# Altium integrated library Microchip PIC24F.IntLib: 529 symbols (part 24 of 32)

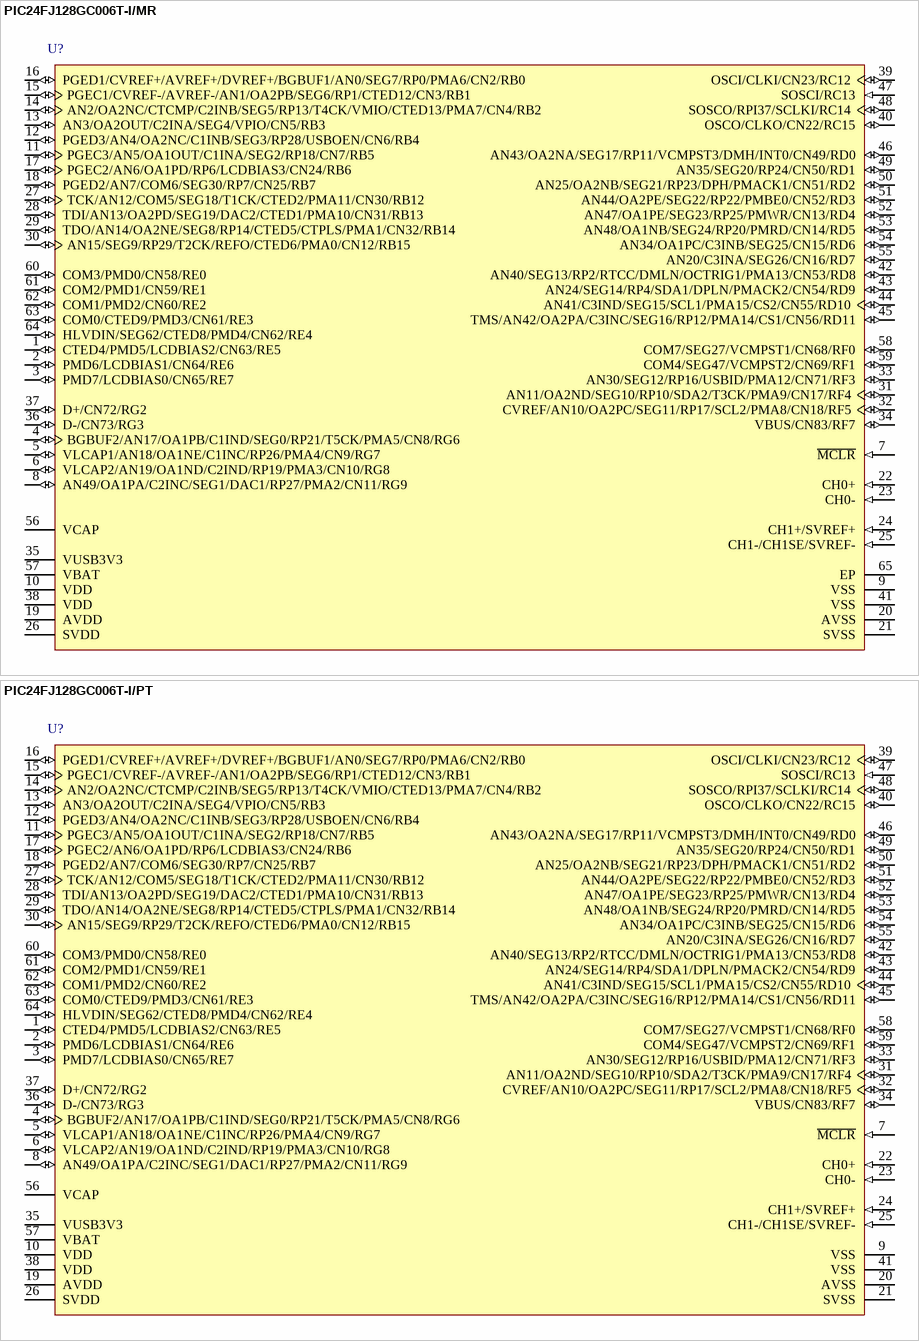
[diagram p85: symbols PIC24FJ128GC006T-I/MR to PIC24FJ128GC006T-I/PT]

## PIC24FJ128GC006T-I/MR
designator U?
16-Bit Flash Microcontrollers with 12-Bit Pipeline A/D, Sigma-Delta A/D, USB On-The-Go and XLP Technology, 64 KB Flash, 8 KB RAM, Industrial Temperature, 64-Pin QFN (MR64), Tape and Reel; Manufacturer: Microchip; PartNumber: PIC24FJ128GC006T-I/MR; VCC Range: 2.0 to 3.6 V; DatasheetVersion: Rev. B; PackageVersion: C04-149C; PackageReference: QFN-MR64; PackageDescription: 64-Lead Plastic Quad Flat, No Lead Package, 9 x 9 mm Body, 0.5 mm Pitch; Supplier 1: Digi-Key; Supplier Part Number 1: PIC24FJ128GC006T-I/MR-ND; Supplier 2: Mouser; Supplier Part Number 2: N/A; Packing: Tape and Reel; Mounting Technology: Surface Mount; ComponentLink1Description: Manufacturer URL; ComponentLink1URL: http://www.microchip.com/; ComponentLink2Description: Datasheet; ComponentLink2URL: http://ww1.microchip.com/downloads/en/DeviceDoc/30009312b.pdf; ComponentLink3Description: Package Specification; ComponentLink3URL: http://ww1.microchip.com/downloads/en/DeviceDoc/60001191B.pdf
footprint MCHP-QFN-MR64-7150X7150TP_V (QFN, 64-Leads, Body 9x9mm, Pitch 0.5mm, Thermal Pad 7.15X7.15mm)
pins: 1 CTED4/PMD5/LCDBIAS2/CN63/RE5 (io), 2 PMD6/LCDBIAS1/CN64/RE6 (io), 3 PMD7/LCDBIAS0/CN65/RE7 (io), 4 BGBUF2/AN17/OA1PB/C1IND/SEG0/RP21/T5CK/PMA5/CN8/RG6 (io), 5 VLCAP1/AN18/OA1NE/C1INC/RP26/PMA4/CN9/RG7 (io), 6 VLCAP2/AN19/OA1ND/C2IND/RP19/PMA3/CN10/RG8 (io), 7 ~{MCLR} (in) "Master Clear (device Reset) Input. This line is brought Master Clear (device Reset) Input. This line is brought low to cause a Reset.", 8 AN49/OA1PA/C2INC/SEG1/DAC1/RP27/PMA2/CN11/RG9 (io), 9 VSS (power) "Ground Reference for Logic and I/O Pins.", 10 VDD (power) "Positive Supply for Peripheral Digital Logic and I/O Pins.", 11 PGEC3/AN5/OA1OUT/C1INA/SEG2/RP18/CN7/RB5 (io), 12 PGED3/AN4/OA2NC/C1INB/SEG3/RP28/USBOEN/CN6/RB4 (io), 13 AN3/OA2OUT/C2INA/SEG4/VPIO/CN5/RB3 (io), 14 AN2/OA2NC/CTCMP/C2INB/SEG5/RP13/T4CK/VMIO/CTED13/PMA7/CN4/RB2 (io), 15 PGEC1/CVREF-/AVREF-/AN1/OA2PB/SEG6/RP1/CTED12/CN3/RB1 (io), 16 PGED1/CVREF+/AVREF+/DVREF+/BGBUF1/AN0/SEG7/RP0/PMA6/CN2/RB0 (io), 17 PGEC2/AN6/OA1PD/RP6/LCDBIAS3/CN24/RB6 (io), 18 PGED2/AN7/COM6/SEG30/RP7/CN25/RB7 (io), 19 AVDD (power) "Positive Supply for Analog modules", 20 AVSS (power) "Ground Reference for Analog modules", 21 SVSS (power) "Ground Reference for Sigma-Delta A/D Converter.", 22 CH0+ (in) "Sigma-Delta A/D Converter Channel 0 Non-Inverting Analog Input", 23 CH0- (in) "Sigma-Delta A/D Converter Channel 0 Inverting Analog Input.", 24 CH1+/SVREF+ (in), 25 CH1-/CH1SE/SVREF- (in), 26 SVDD (power) "Positive Supply for Sigma-Delta A/D Converter", 27 TCK/AN12/COM5/SEG18/T1CK/CTED2/PMA11/CN30/RB12 (io), 28 TDI/AN13/OA2PD/SEG19/DAC2/CTED1/PMA10/CN31/RB13 (io), 29 TDO/AN14/OA2NE/SEG8/RP14/CTED5/CTPLS/PMA1/CN32/RB14 (io), 30 AN15/SEG9/RP29/T2CK/REFO/CTED6/PMA0/CN12/RB15 (io), 31 AN11/OA2ND/SEG10/RP10/SDA2/T3CK/PMA9/CN17/RF4 (io), 32 CVREF/AN10/OA2PC/SEG11/RP17/SCL2/PMA8/CN18/RF5 (io), 33 AN30/SEG12/RP16/USBID/PMA12/CN71/RF3 (io), 34 VBUS/CN83/RF7 (io), 35 VUSB3V3 (power) "USB Transceiver Power Input Voltage (3.3V nominal)", 36 D-/CN73/RG3 (io), 37 D+/CN72/RG2 (io), 38 VDD (power) "Positive Supply for Peripheral Digital Logic and I/O Pins.", 39 OSCI/CLKI/CN23/RC12 (io), 40 OSCO/CLKO/CN22/RC15 (io), 41 VSS (power) "Ground Reference for Logic and I/O Pins.", 42 AN40/SEG13/RP2/RTCC/DMLN/OCTRIG1/PMA13/CN53/RD8 (io), 43 AN24/SEG14/RP4/SDA1/DPLN/PMACK2/CN54/RD9 (io), 44 AN41/C3IND/SEG15/SCL1/PMA15/CS2/CN55/RD10 (io), 45 TMS/AN42/OA2PA/C3INC/SEG16/RP12/PMA14/CS1/CN56/RD11 (io), 46 AN43/OA2NA/SEG17/RP11/VCMPST3/DMH/INT0/CN49/RD0 (io), 47 SOSCI/RC13 (in), 48 SOSCO/RPI37/SCLKI/RC14 (io), 49 AN35/SEG20/RP24/CN50/RD1 (io), 50 AN25/OA2NB/SEG21/RP23/DPH/PMACK1/CN51/RD2 (io), 51 AN44/OA2PE/SEG22/RP22/PMBE0/CN52/RD3 (io), 52 AN47/OA1PE/SEG23/RP25/PMWR/CN13/RD4 (io), 53 AN48/OA1NB/SEG24/RP20/PMRD/CN14/RD5 (io), 54 AN34/OA1PC/C3INB/SEG25/CN15/RD6 (io), 55 AN20/C3INA/SEG26/CN16/RD7 (io), 56 VCAP "External Filter Capacitor Connection.", 57 VBAT (power) "Backup Battery (B+) Input", 58 COM7/SEG27/VCMPST1/CN68/RF0 (io), 59 COM4/SEG47/VCMPST2/CN69/RF1 (io), 60 COM3/PMD0/CN58/RE0 (io), 61 COM2/PMD1/CN59/RE1 (io), 62 COM1/PMD2/CN60/RE2 (io), 63 COM0/CTED9/PMD3/CN61/RE3 (io), 64 HLVDIN/SEG62/CTED8/PMD4/CN62/RE4 (io), 65 EP (power)

## PIC24FJ128GC006T-I/PT
designator U?
16-Bit Flash Microcontrollers with 12-Bit Pipeline A/D, Sigma-Delta A/D, USB On-The-Go and XLP Technology, 64 KB Flash, 8 KB RAM, Industrial Temperature, 64-Pin TQFP (PT64), Tape and Reel; Manufacturer: Microchip; PartNumber: PIC24FJ128GC006T-I/PT; VCC Range: 2.0 to 3.6 V; DatasheetVersion: Rev. B; PackageVersion: C04-085B, 12/2012; PackageReference: TQFP-PT64; PackageDescription: 64-Lead Plastic Thin Quad FlatPack, 10 x 10 mm Body, 0.5 mm Pitch; Supplier 1: Digi-Key; Supplier Part Number 1: PIC24FJ128GC006T-I/PT-ND; Supplier 2: Mouser; Supplier Part Number 2: N/A; Packing: Tape and Reel; Mounting Technology: Surface Mount; ComponentLink1Description: Manufacturer URL; ComponentLink1URL: http://www.microchip.com/; ComponentLink2Description: Datasheet; ComponentLink2URL: http://ww1.microchip.com/downloads/en/DeviceDoc/30009312b.pdf; ComponentLink3Description: Package Specification; ComponentLink3URL: http://www.microchip.com/stellent/groups/techpub_sg/documents/packagingspec/en012702.pdf
footprint MCHP-TQFP-PT64_N (TQFP, 64-Leads, Body 10x10mm, Pitch 0.5mm, IPC Medium Density)
footprint MCHP-TQFP-PT64_L (TQFP, 64-Leads, Body 10x10mm, Pitch 0.5mm, IPC High Density)
footprint MCHP-TQFP-PT64_M (TQFP, 64-Leads, Body 10x10mm, Pitch 0.5mm, IPC Low Density)
pins: 1 CTED4/PMD5/LCDBIAS2/CN63/RE5 (io), 2 PMD6/LCDBIAS1/CN64/RE6 (io), 3 PMD7/LCDBIAS0/CN65/RE7 (io), 4 BGBUF2/AN17/OA1PB/C1IND/SEG0/RP21/T5CK/PMA5/CN8/RG6 (io), 5 VLCAP1/AN18/OA1NE/C1INC/RP26/PMA4/CN9/RG7 (io), 6 VLCAP2/AN19/OA1ND/C2IND/RP19/PMA3/CN10/RG8 (io), 7 ~{MCLR} (in) "Master Clear (device Reset) Input. This line is brought Master Clear (device Reset) Input. This line is brought low to cause a Reset.", 8 AN49/OA1PA/C2INC/SEG1/DAC1/RP27/PMA2/CN11/RG9 (io), 9 VSS (power) "Ground Reference for Logic and I/O Pins.", 10 VDD (power) "Positive Supply for Peripheral Digital Logic and I/O Pins.", 11 PGEC3/AN5/OA1OUT/C1INA/SEG2/RP18/CN7/RB5 (io), 12 PGED3/AN4/OA2NC/C1INB/SEG3/RP28/USBOEN/CN6/RB4 (io), 13 AN3/OA2OUT/C2INA/SEG4/VPIO/CN5/RB3 (io), 14 AN2/OA2NC/CTCMP/C2INB/SEG5/RP13/T4CK/VMIO/CTED13/PMA7/CN4/RB2 (io), 15 PGEC1/CVREF-/AVREF-/AN1/OA2PB/SEG6/RP1/CTED12/CN3/RB1 (io), 16 PGED1/CVREF+/AVREF+/DVREF+/BGBUF1/AN0/SEG7/RP0/PMA6/CN2/RB0 (io), 17 PGEC2/AN6/OA1PD/RP6/LCDBIAS3/CN24/RB6 (io), 18 PGED2/AN7/COM6/SEG30/RP7/CN25/RB7 (io), 19 AVDD (power) "Positive Supply for Analog modules", 20 AVSS (power) "Ground Reference for Analog modules", 21 SVSS (power) "Ground Reference for Sigma-Delta A/D Converter.", 22 CH0+ (in) "Sigma-Delta A/D Converter Channel 0 Non-Inverting Analog Input", 23 CH0- (in) "Sigma-Delta A/D Converter Channel 0 Inverting Analog Input.", 24 CH1+/SVREF+ (in), 25 CH1-/CH1SE/SVREF- (in), 26 SVDD (power) "Positive Supply for Sigma-Delta A/D Converter", 27 TCK/AN12/COM5/SEG18/T1CK/CTED2/PMA11/CN30/RB12 (io), 28 TDI/AN13/OA2PD/SEG19/DAC2/CTED1/PMA10/CN31/RB13 (io), 29 TDO/AN14/OA2NE/SEG8/RP14/CTED5/CTPLS/PMA1/CN32/RB14 (io), 30 AN15/SEG9/RP29/T2CK/REFO/CTED6/PMA0/CN12/RB15 (io), 31 AN11/OA2ND/SEG10/RP10/SDA2/T3CK/PMA9/CN17/RF4 (io), 32 CVREF/AN10/OA2PC/SEG11/RP17/SCL2/PMA8/CN18/RF5 (io), 33 AN30/SEG12/RP16/USBID/PMA12/CN71/RF3 (io), 34 VBUS/CN83/RF7 (io), 35 VUSB3V3 (power) "USB Transceiver Power Input Voltage (3.3V nominal)", 36 D-/CN73/RG3 (io), 37 D+/CN72/RG2 (io), 38 VDD (power) "Positive Supply for Peripheral Digital Logic and I/O Pins.", 39 OSCI/CLKI/CN23/RC12 (io), 40 OSCO/CLKO/CN22/RC15 (io), 41 VSS (power) "Ground Reference for Logic and I/O Pins.", 42 AN40/SEG13/RP2/RTCC/DMLN/OCTRIG1/PMA13/CN53/RD8 (io), 43 AN24/SEG14/RP4/SDA1/DPLN/PMACK2/CN54/RD9 (io), 44 AN41/C3IND/SEG15/SCL1/PMA15/CS2/CN55/RD10 (io), 45 TMS/AN42/OA2PA/C3INC/SEG16/RP12/PMA14/CS1/CN56/RD11 (io), 46 AN43/OA2NA/SEG17/RP11/VCMPST3/DMH/INT0/CN49/RD0 (io), 47 SOSCI/RC13 (in), 48 SOSCO/RPI37/SCLKI/RC14 (io), 49 AN35/SEG20/RP24/CN50/RD1 (io), 50 AN25/OA2NB/SEG21/RP23/DPH/PMACK1/CN51/RD2 (io), 51 AN44/OA2PE/SEG22/RP22/PMBE0/CN52/RD3 (io), 52 AN47/OA1PE/SEG23/RP25/PMWR/CN13/RD4 (io), 53 AN48/OA1NB/SEG24/RP20/PMRD/CN14/RD5 (io), 54 AN34/OA1PC/C3INB/SEG25/CN15/RD6 (io), 55 AN20/C3INA/SEG26/CN16/RD7 (io), 56 VCAP "External Filter Capacitor Connection.", 57 VBAT (power) "Backup Battery (B+) Input", 58 COM7/SEG27/VCMPST1/CN68/RF0 (io), 59 COM4/SEG47/VCMPST2/CN69/RF1 (io), 60 COM3/PMD0/CN58/RE0 (io), 61 COM2/PMD1/CN59/RE1 (io), 62 COM1/PMD2/CN60/RE2 (io), 63 COM0/CTED9/PMD3/CN61/RE3 (io), 64 HLVDIN/SEG62/CTED8/PMD4/CN62/RE4 (io)

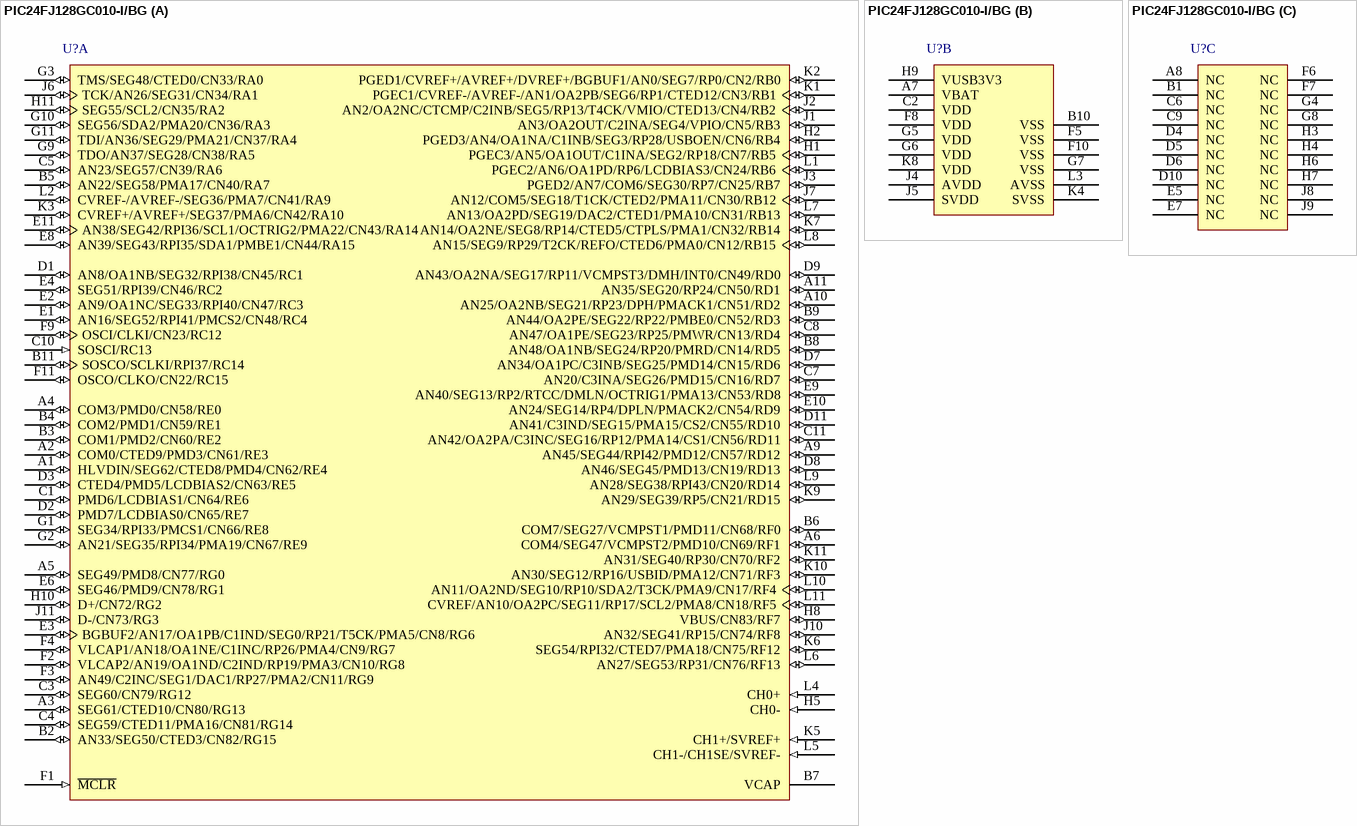
[diagram p86: symbol PIC24FJ128GC010-I/BG]

## PIC24FJ128GC010-I/BG
designator U?
16-Bit Flash Microcontrollers with 12-Bit Pipeline A/D, Sigma-Delta A/D, USB On-The-Go and XLP Technology, 64 KB Flash, 8 KB RAM, Industrial Temperature, 121-Pin XBGA (BG121), Tray; Manufacturer: Microchip; PartNumber: PIC24FJ128GC010-I/BG; VCC Range: 2.0 to 3.6 V; DatasheetVersion: Rev. B; PackageVersion: C04-148D; PackageReference: XBGA-BG121; PackageDescription: 121-Ball Plastic Thin Profile Ball Grid Array, 10 x 10 mm Body, 0.8 mm Pitch; Supplier 1: Digi-Key; Supplier Part Number 1: PIC24FJ128GC010-I/BG-ND; Supplier 2: Newark; Supplier Part Number 2: 94T7610; Supplier 3: Mouser; Supplier Part Number 3: N/A; Packing: Tray; Mounting Technology: Surface Mount; ComponentLink1Description: Manufacturer URL; ComponentLink1URL: http://www.microchip.com/; ComponentLink2Description: Datasheet; ComponentLink2URL: http://ww1.microchip.com/downloads/en/DeviceDoc/30009312b.pdf; ComponentLink3Description: Package Specification; ComponentLink3URL: http://ww1.microchip.com/downloads/en/DeviceDoc/30009312b.pdf
footprint MCHP-XBGA-BG121 (BGA, 121-Balls, Body 10x10mm, Pitch 0.8mm)
part A pins: A1 HLVDIN/SEG62/CTED8/PMD4/CN62/RE4 (io), A2 COM0/CTED9/PMD3/CN61/RE3 (io), A3 SEG61/CTED10/CN80/RG13 (io), A4 COM3/PMD0/CN58/RE0 (io), A5 SEG49/PMD8/CN77/RG0 (io), A6 COM4/SEG47/VCMPST2/PMD10/CN69/RF1 (io), A9 AN45/SEG44/RPI42/PMD12/CN57/RD12 (io), A10 AN25/OA2NB/SEG21/RP23/DPH/PMACK1/CN51/RD2 (io), A11 AN35/SEG20/RP24/CN50/RD1 (io), B2 AN33/SEG50/CTED3/CN82/RG15 (io), B3 COM1/PMD2/CN60/RE2 (io), B4 COM2/PMD1/CN59/RE1 (io), B5 AN22/SEG58/PMA17/CN40/RA7 (io), B6 COM7/SEG27/VCMPST1/PMD11/CN68/RF0 (io), B7 VCAP "External Filter Capacitor Connection.", B8 AN48/OA1NB/SEG24/RP20/PMRD/CN14/RD5 (io), B9 AN44/OA2PE/SEG22/RP22/PMBE0/CN52/RD3 (io), B11 SOSCO/SCLKI/RPI37/RC14 (io), C1 PMD6/LCDBIAS1/CN64/RE6 (io), C3 SEG60/CN79/RG12 (io), C4 SEG59/CTED11/PMA16/CN81/RG14 (io), C5 AN23/SEG57/CN39/RA6 (io), C7 AN20/C3INA/SEG26/PMD15/CN16/RD7 (io), C8 AN47/OA1PE/SEG23/RP25/PMWR/CN13/RD4 (io), C10 SOSCI/RC13 (in), C11 AN42/OA2PA/C3INC/SEG16/RP12/PMA14/CS1/CN56/RD11 (io), D1 AN8/OA1NB/SEG32/RPI38/CN45/RC1 (io), D2 PMD7/LCDBIAS0/CN65/RE7 (io), D3 CTED4/PMD5/LCDBIAS2/CN63/RE5 (io), D7 AN34/OA1PC/C3INB/SEG25/PMD14/CN15/RD6 (io), D8 AN46/SEG45/PMD13/CN19/RD13 (io), D9 AN43/OA2NA/SEG17/RP11/VCMPST3/DMH/INT0/CN49/RD0 (io), D11 AN41/C3IND/SEG15/PMA15/CS2/CN55/RD10 (io), E1 AN16/SEG52/RPI41/PMCS2/CN48/RC4 (io), E2 AN9/OA1NC/SEG33/RPI40/CN47/RC3 (io), E3 BGBUF2/AN17/OA1PB/C1IND/SEG0/RP21/T5CK/PMA5/CN8/RG6 (io), E4 SEG51/RPI39/CN46/RC2 (io), E6 SEG46/PMD9/CN78/RG1 (io), E8 AN39/SEG43/RPI35/SDA1/PMBE1/CN44/RA15 (io), E9 AN40/SEG13/RP2/RTCC/DMLN/OCTRIG1/PMA13/CN53/RD8 (io), E10 AN24/SEG14/RP4/DPLN/PMACK2/CN54/RD9 (io), E11 AN38/SEG42/RPI36/SCL1/OCTRIG2/PMA22/CN43/RA14 (io), F1 ~{MCLR} (in) "Master Clear (device Reset) Input. This line is brought low to cause a Reset.", F2 VLCAP2/AN19/OA1ND/C2IND/RP19/PMA3/CN10/RG8 (io), F3 AN49/C2INC/SEG1/DAC1/RP27/PMA2/CN11/RG9 (io), F4 VLCAP1/AN18/OA1NE/C1INC/RP26/PMA4/CN9/RG7 (io), F9 OSCI/CLKI/CN23/RC12 (io), F11 OSCO/CLKO/CN22/RC15 (io), G1 SEG34/RPI33/PMCS1/CN66/RE8 (io), G2 AN21/SEG35/RPI34/PMA19/CN67/RE9 (io), G3 TMS/SEG48/CTED0/CN33/RA0 (io), G9 TDO/AN37/SEG28/CN38/RA5 (io), G10 SEG56/SDA2/PMA20/CN36/RA3 (io), G11 TDI/AN36/SEG29/PMA21/CN37/RA4 (io), H1 PGEC3/AN5/OA1OUT/C1INA/SEG2/RP18/CN7/RB5 (io), H2 PGED3/AN4/OA1NA/C1INB/SEG3/RP28/USBOEN/CN6/RB4 (io), H5 CH0- (in) "Sigma-Delta A/D Converter Channel 0 Inverting Analog Input.", H8 VBUS/CN83/RF7 (io), H10 D+/CN72/RG2 (io), H11 SEG55/SCL2/CN35/RA2 (io), J1 AN3/OA2OUT/C2INA/SEG4/VPIO/CN5/RB3 (io), J2 AN2/OA2NC/CTCMP/C2INB/SEG5/RP13/T4CK/VMIO/CTED13/CN4/RB2 (io), J3 PGED2/AN7/COM6/SEG30/RP7/CN25/RB7 (io), J6 TCK/AN26/SEG31/CN34/RA1 (io), J7 AN12/COM5/SEG18/T1CK/CTED2/PMA11/CN30/RB12 (io), J10 AN32/SEG41/RP15/CN74/RF8 (io), J11 D-/CN73/RG3 (io), K1 PGEC1/CVREF-/AVREF-/AN1/OA2PB/SEG6/RP1/CTED12/CN3/RB1 (io), K2 PGED1/CVREF+/AVREF+/DVREF+/BGBUF1/AN0/SEG7/RP0/CN2/RB0 (io), K3 CVREF+/AVREF+/SEG37/PMA6/CN42/RA10 (io), K5 CH1+/SVREF+ (in), K6 SEG54/RPI32/CTED7/PMA18/CN75/RF12 (io), K7 AN14/OA2NE/SEG8/RP14/CTED5/CTPLS/PMA1/CN32/RB14 (io), K9 AN29/SEG39/RP5/CN21/RD15 (io), K10 AN30/SEG12/RP16/USBID/PMA12/CN71/RF3 (io), K11 AN31/SEG40/RP30/CN70/RF2 (io), L1 PGEC2/AN6/OA1PD/RP6/LCDBIAS3/CN24/RB6 (io), L2 CVREF-/AVREF-/SEG36/PMA7/CN41/RA9 (io), L4 CH0+ (in) "Sigma-Delta A/D Converter Channel 1 Non-Inverting Analog Input.", L5 CH1-/CH1SE/SVREF- (in), L6 AN27/SEG53/RP31/CN76/RF13 (io), L7 AN13/OA2PD/SEG19/DAC2/CTED1/PMA10/CN31/RB13 (io), L8 AN15/SEG9/RP29/T2CK/REFO/CTED6/PMA0/CN12/RB15 (io), L9 AN28/SEG38/RPI43/CN20/RD14 (io), L10 AN11/OA2ND/SEG10/RP10/SDA2/T3CK/PMA9/CN17/RF4 (io), L11 CVREF/AN10/OA2PC/SEG11/RP17/SCL2/PMA8/CN18/RF5 (io)
part B pins: A7 VBAT (power) "Backup Battery (B+) Input.", B10 VSS (power) "Ground Reference for Logic and I/O Pins.", C2 VDD (power) "Positive Supply for Peripheral Digital Logic and I/O Pins", F5 VSS (power) "Ground Reference for Logic and I/O Pins.", F8 VDD (power) "Positive Supply for Peripheral Digital Logic and I/O Pins", F10 VSS (power) "Ground Reference for Logic and I/O Pins.", G5 VDD (power) "Positive Supply for Peripheral Digital Logic and I/O Pins", G6 VDD (power) "Positive Supply for Peripheral Digital Logic and I/O Pins", G7 VSS (power) "Ground Reference for Logic and I/O Pins.", H9 VUSB3V3 (power) "USB Transceiver Power Input Voltage (3.3V nominal)", J4 AVDD (power) "Positive Supply for Analog modules.", J5 SVDD (power) "Positive Supply for Sigma-Delta A/D Converter", K4 SVSS (power) "Ground Reference for Sigma-Delta A/D Converter", K8 VDD (power) "Positive Supply for Peripheral Digital Logic and I/O Pins", L3 AVSS (power) "Ground Reference for Analog modules"
part C pins: A8 NC, B1 NC, C6 NC, C9 NC, D4 NC, D5 NC, D6 NC, D10 NC, E5 NC, E7 NC, F6 NC, F7 NC, G4 NC, G8 NC, H3 NC, H4 NC, H6 NC, H7 NC, J8 NC, J9 NC

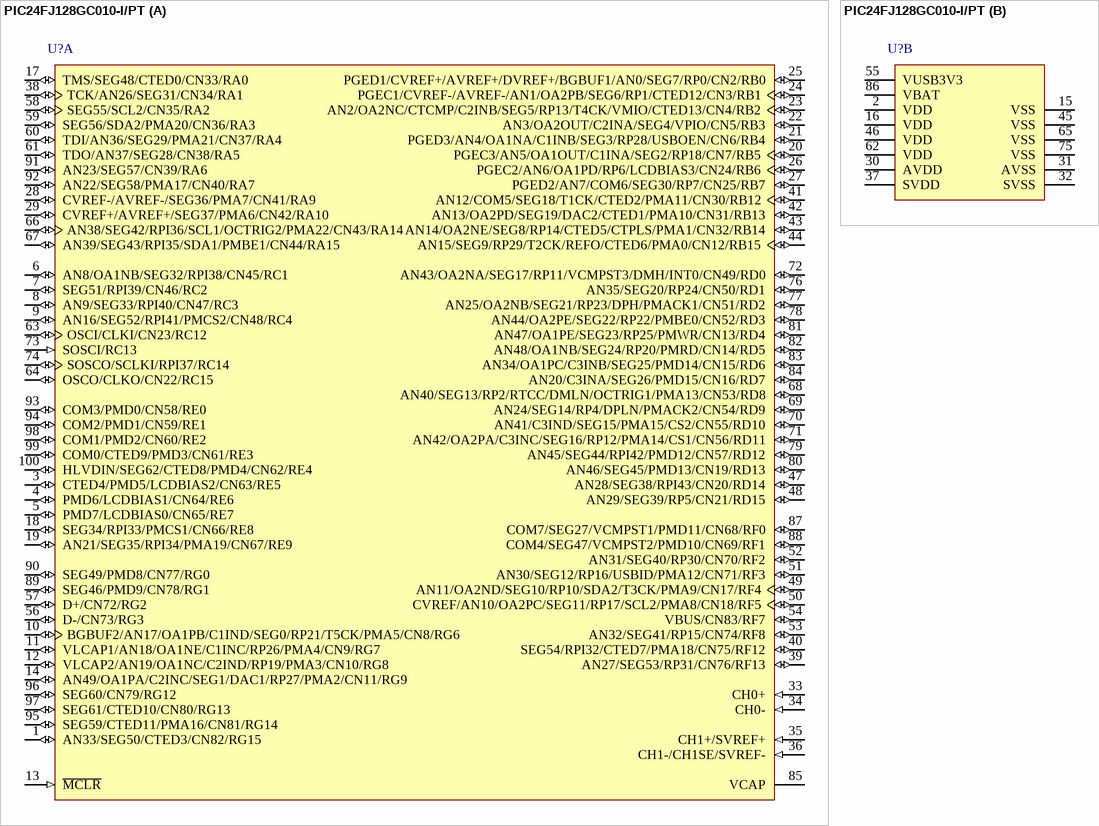
[diagram p87: symbol PIC24FJ128GC010-I/PT]

## PIC24FJ128GC010-I/PT
designator U?
16-Bit Flash Microcontrollers with 12-Bit Pipeline A/D, Sigma-Delta A/D, USB On-The-Go and XLP Technology, 64 KB Flash, 8 KB RAM, Industrial Temperature, 100-Pin TQFP (PT100), Tray; Manufacturer: Microchip; PartNumber: PIC24FJ128GC010-I/PT; VCC Range: 2.0 to 3.6 V; DatasheetVersion: Rev. B; PackageVersion: C04-100B, 12/2012; PackageReference: TQFP-PT100; PackageDescription: 100-Lead Plastic Thin Quad Flatpack, 12 x 12 mm Body, 0.4 mm Pitch; Supplier 1: Digi-Key; Supplier Part Number 1: PIC24FJ128GC010-I/PT-ND; Supplier 2: Farnell; Supplier Part Number 2: 2355356; Supplier 3: Newark; Supplier Part Number 3: 07X1937; Supplier 4: Newark; Supplier Part Number 4: 94T7611; Supplier 5: Mouser; Supplier Part Number 5: 579-P24FJ128GC010IPT; Packing: Tray; Mounting Technology: Surface Mount; ComponentLink1Description: Manufacturer URL; ComponentLink1URL: http://www.microchip.com/; ComponentLink2Description: Datasheet; ComponentLink2URL: http://ww1.microchip.com/downloads/en/DeviceDoc/30009312b.pdf; ComponentLink3Description: Package Specification; ComponentLink3URL: http://www.microchip.com/stellent/groups/techpub_sg/documents/packagingspec/en012702.pdf
footprint MCHP-TQFP-PT100_N (QFP, 100-Leads, Body 12x12mm, Pitch 0.4mm, IPC Medium Density)
footprint MCHP-TQFP-PT100_L (QFP, 100-Leads, Body 12x12mm, Pitch 0.4mm, IPC High Density)
footprint MCHP-TQFP-PT100_M (TQFP, 100-Leads, Body 12x12mm, Pitch 0.4mm, IPC Low Density)
part A pins: 1 AN33/SEG50/CTED3/CN82/RG15 (io), 3 CTED4/PMD5/LCDBIAS2/CN63/RE5 (io), 4 PMD6/LCDBIAS1/CN64/RE6 (io), 5 PMD7/LCDBIAS0/CN65/RE7 (io), 6 AN8/OA1NB/SEG32/RPI38/CN45/RC1 (io), 7 SEG51/RPI39/CN46/RC2 (io), 8 AN9/SEG33/RPI40/CN47/RC3 (io), 9 AN16/SEG52/RPI41/PMCS2/CN48/RC4 (io), 10 BGBUF2/AN17/OA1PB/C1IND/SEG0/RP21/T5CK/PMA5/CN8/RG6 (io), 11 VLCAP1/AN18/OA1NE/C1INC/RP26/PMA4/CN9/RG7 (io), 12 VLCAP2/AN19/OA1NC/C2IND/RP19/PMA3/CN10/RG8 (io), 13 ~{MCLR} (in) "Master Clear (device Reset) Input. This line is brought low to cause a Reset.", 14 AN49/OA1PA/C2INC/SEG1/DAC1/RP27/PMA2/CN11/RG9 (io), 17 TMS/SEG48/CTED0/CN33/RA0 (io), 18 SEG34/RPI33/PMCS1/CN66/RE8 (io), 19 AN21/SEG35/RPI34/PMA19/CN67/RE9 (io), 20 PGEC3/AN5/OA1OUT/C1INA/SEG2/RP18/CN7/RB5 (io), 21 PGED3/AN4/OA1NA/C1INB/SEG3/RP28/USBOEN/CN6/RB4 (io), 22 AN3/OA2OUT/C2INA/SEG4/VPIO/CN5/RB3 (io), 23 AN2/OA2NC/CTCMP/C2INB/SEG5/RP13/T4CK/VMIO/CTED13/CN4/RB2 (io), 24 PGEC1/CVREF-/AVREF-/AN1/OA2PB/SEG6/RP1/CTED12/CN3/RB1 (io), 25 PGED1/CVREF+/AVREF+/DVREF+/BGBUF1/AN0/SEG7/RP0/CN2/RB0 (io), 26 PGEC2/AN6/OA1PD/RP6/LCDBIAS3/CN24/RB6 (io), 27 PGED2/AN7/COM6/SEG30/RP7/CN25/RB7 (io), 28 CVREF-/AVREF-/SEG36/PMA7/CN41/RA9 (io), 29 CVREF+/AVREF+/SEG37/PMA6/CN42/RA10 (io), 33 CH0+ (in) "Sigma-Delta A/D Converter Channel 0 Non-Inverting Analog Input.", 34 CH0- (in) "Sigma-Delta A/D Converter Channel 0 Inverting Analog Input.", 35 CH1+/SVREF+ (in), 36 CH1-/CH1SE/SVREF- (in), 38 TCK/AN26/SEG31/CN34/RA1 (io), 39 AN27/SEG53/RP31/CN76/RF13 (io), 40 SEG54/RPI32/CTED7/PMA18/CN75/RF12 (io), 41 AN12/COM5/SEG18/T1CK/CTED2/PMA11/CN30/RB12 (io), 42 AN13/OA2PD/SEG19/DAC2/CTED1/PMA10/CN31/RB13 (io), 43 AN14/OA2NE/SEG8/RP14/CTED5/CTPLS/PMA1/CN32/RB14 (io), 44 AN15/SEG9/RP29/T2CK/REFO/CTED6/PMA0/CN12/RB15 (io), 47 AN28/SEG38/RPI43/CN20/RD14 (io), 48 AN29/SEG39/RP5/CN21/RD15 (io), 49 AN11/OA2ND/SEG10/RP10/SDA2/T3CK/PMA9/CN17/RF4 (io), 50 CVREF/AN10/OA2PC/SEG11/RP17/SCL2/PMA8/CN18/RF5 (io), 51 AN30/SEG12/RP16/USBID/PMA12/CN71/RF3 (io), 52 AN31/SEG40/RP30/CN70/RF2 (io), 53 AN32/SEG41/RP15/CN74/RF8 (io), 54 VBUS/CN83/RF7 (io), 56 D-/CN73/RG3 (io), 57 D+/CN72/RG2 (io), 58 SEG55/SCL2/CN35/RA2 (io), 59 SEG56/SDA2/PMA20/CN36/RA3 (io), 60 TDI/AN36/SEG29/PMA21/CN37/RA4 (io), 61 TDO/AN37/SEG28/CN38/RA5 (io), 63 OSCI/CLKI/CN23/RC12 (io), 64 OSCO/CLKO/CN22/RC15 (io), 66 AN38/SEG42/RPI36/SCL1/OCTRIG2/PMA22/CN43/RA14 (io), 67 AN39/SEG43/RPI35/SDA1/PMBE1/CN44/RA15 (io), 68 AN40/SEG13/RP2/RTCC/DMLN/OCTRIG1/PMA13/CN53/RD8 (io), 69 AN24/SEG14/RP4/DPLN/PMACK2/CN54/RD9 (io), 70 AN41/C3IND/SEG15/PMA15/CS2/CN55/RD10 (io), 71 AN42/OA2PA/C3INC/SEG16/RP12/PMA14/CS1/CN56/RD11 (io), 72 AN43/OA2NA/SEG17/RP11/VCMPST3/DMH/INT0/CN49/RD0 (io), 73 SOSCI/RC13 (in), 74 SOSCO/SCLKI/RPI37/RC14 (io), 76 AN35/SEG20/RP24/CN50/RD1 (io), 77 AN25/OA2NB/SEG21/RP23/DPH/PMACK1/CN51/RD2 (io), 78 AN44/OA2PE/SEG22/RP22/PMBE0/CN52/RD3 (io), 79 AN45/SEG44/RPI42/PMD12/CN57/RD12 (io), 80 AN46/SEG45/PMD13/CN19/RD13 (io), 81 AN47/OA1PE/SEG23/RP25/PMWR/CN13/RD4 (io), 82 AN48/OA1NB/SEG24/RP20/PMRD/CN14/RD5 (io), 83 AN34/OA1PC/C3INB/SEG25/PMD14/CN15/RD6 (io), 84 AN20/C3INA/SEG26/PMD15/CN16/RD7 (io), 85 VCAP "External Filter Capacitor Connection.", 87 COM7/SEG27/VCMPST1/PMD11/CN68/RF0 (io), 88 COM4/SEG47/VCMPST2/PMD10/CN69/RF1 (io), 89 SEG46/PMD9/CN78/RG1 (io), 90 SEG49/PMD8/CN77/RG0 (io), 91 AN23/SEG57/CN39/RA6 (io), 92 AN22/SEG58/PMA17/CN40/RA7 (io), 93 COM3/PMD0/CN58/RE0 (io), 94 COM2/PMD1/CN59/RE1 (io), 95 SEG59/CTED11/PMA16/CN81/RG14 (io), 96 SEG60/CN79/RG12 (io), 97 SEG61/CTED10/CN80/RG13 (io), 98 COM1/PMD2/CN60/RE2 (io), 99 COM0/CTED9/PMD3/CN61/RE3 (io), 100 HLVDIN/SEG62/CTED8/PMD4/CN62/RE4 (io)
part B pins: 2 VDD (power) "Positive Supply for Peripheral Digital Logic and I/O Pins.", 15 VSS (power) "Ground Reference for Logic and I/O Pins.", 16 VDD (power) "Positive Supply for Peripheral Digital Logic and I/O Pins.", 30 AVDD (power) "Positive Supply for Analog modules.", 31 AVSS (power) "Ground Reference for Analog modules.", 32 SVSS (power) "Ground Reference for Sigma-Delta A/D Converter.", 37 SVDD (power) "Positive Supply for Sigma-Delta A/D Converter.", 45 VSS (power) "Ground Reference for Logic and I/O Pins.", 46 VDD (power) "Positive Supply for Peripheral Digital Logic and I/O Pins.", 55 VUSB3V3 (power) "USB Transceiver Power Input Voltage (3.3V nominal)", 62 VDD (power) "Positive Supply for Peripheral Digital Logic and I/O Pins.", 65 VSS (power) "Ground Reference for Logic and I/O Pins.", 75 VSS (power) "Ground Reference for Logic and I/O Pins.", 86 VBAT (power) "Backup Battery (B+) Input."

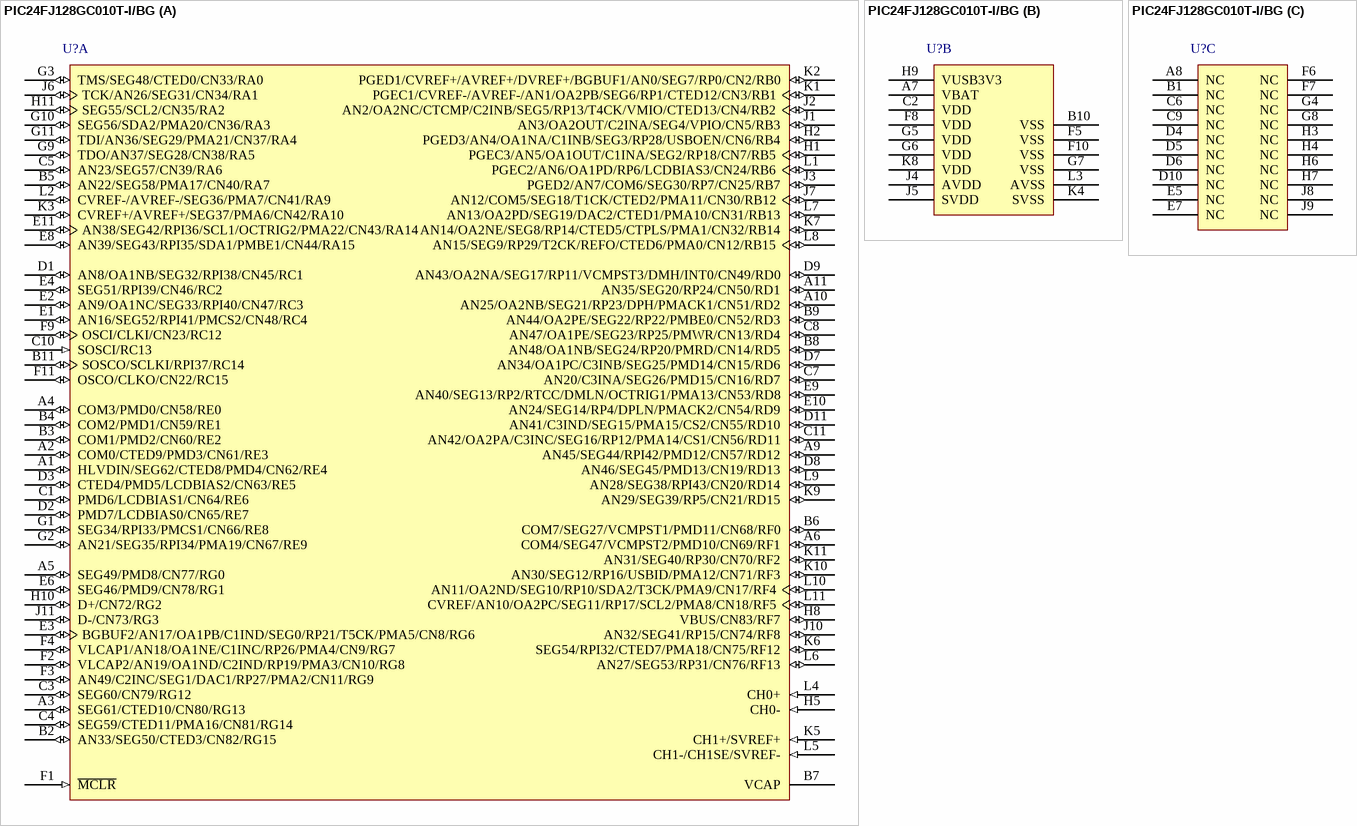
[diagram p88: symbol PIC24FJ128GC010T-I/BG]

## PIC24FJ128GC010T-I/BG
designator U?
16-Bit Flash Microcontrollers with 12-Bit Pipeline A/D, Sigma-Delta A/D, USB On-The-Go and XLP Technology, 64 KB Flash, 8 KB RAM, Industrial Temperature, 121-Pin XBGA (BG121), Tape and Reel; Manufacturer: Microchip; PartNumber: PIC24FJ128GC010T-I/BG; VCC Range: 2.0 to 3.6 V; DatasheetVersion: Rev. B; PackageVersion: C04-148D; PackageReference: XBGA-BG121; PackageDescription: 121-Ball Plastic Thin Profile Ball Grid Array, 10 x 10 mm Body, 0.8 mm Pitch; Supplier 1: Digi-Key; Supplier Part Number 1: PIC24FJ128GC010T-I/BG-ND; Supplier 2: Mouser; Supplier Part Number 2: N/A; Packing: Tape and Reel; Mounting Technology: Surface Mount; ComponentLink1Description: Manufacturer URL; ComponentLink1URL: http://www.microchip.com/; ComponentLink2Description: Datasheet; ComponentLink2URL: http://ww1.microchip.com/downloads/en/DeviceDoc/30009312b.pdf; ComponentLink3Description: Package Specification; ComponentLink3URL: http://ww1.microchip.com/downloads/en/DeviceDoc/30009312b.pdf
footprint MCHP-XBGA-BG121 (BGA, 121-Balls, Body 10x10mm, Pitch 0.8mm)
part A pins: A1 HLVDIN/SEG62/CTED8/PMD4/CN62/RE4 (io), A2 COM0/CTED9/PMD3/CN61/RE3 (io), A3 SEG61/CTED10/CN80/RG13 (io), A4 COM3/PMD0/CN58/RE0 (io), A5 SEG49/PMD8/CN77/RG0 (io), A6 COM4/SEG47/VCMPST2/PMD10/CN69/RF1 (io), A9 AN45/SEG44/RPI42/PMD12/CN57/RD12 (io), A10 AN25/OA2NB/SEG21/RP23/DPH/PMACK1/CN51/RD2 (io), A11 AN35/SEG20/RP24/CN50/RD1 (io), B2 AN33/SEG50/CTED3/CN82/RG15 (io), B3 COM1/PMD2/CN60/RE2 (io), B4 COM2/PMD1/CN59/RE1 (io), B5 AN22/SEG58/PMA17/CN40/RA7 (io), B6 COM7/SEG27/VCMPST1/PMD11/CN68/RF0 (io), B7 VCAP "External Filter Capacitor Connection.", B8 AN48/OA1NB/SEG24/RP20/PMRD/CN14/RD5 (io), B9 AN44/OA2PE/SEG22/RP22/PMBE0/CN52/RD3 (io), B11 SOSCO/SCLKI/RPI37/RC14 (io), C1 PMD6/LCDBIAS1/CN64/RE6 (io), C3 SEG60/CN79/RG12 (io), C4 SEG59/CTED11/PMA16/CN81/RG14 (io), C5 AN23/SEG57/CN39/RA6 (io), C7 AN20/C3INA/SEG26/PMD15/CN16/RD7 (io), C8 AN47/OA1PE/SEG23/RP25/PMWR/CN13/RD4 (io), C10 SOSCI/RC13 (in), C11 AN42/OA2PA/C3INC/SEG16/RP12/PMA14/CS1/CN56/RD11 (io), D1 AN8/OA1NB/SEG32/RPI38/CN45/RC1 (io), D2 PMD7/LCDBIAS0/CN65/RE7 (io), D3 CTED4/PMD5/LCDBIAS2/CN63/RE5 (io), D7 AN34/OA1PC/C3INB/SEG25/PMD14/CN15/RD6 (io), D8 AN46/SEG45/PMD13/CN19/RD13 (io), D9 AN43/OA2NA/SEG17/RP11/VCMPST3/DMH/INT0/CN49/RD0 (io), D11 AN41/C3IND/SEG15/PMA15/CS2/CN55/RD10 (io), E1 AN16/SEG52/RPI41/PMCS2/CN48/RC4 (io), E2 AN9/OA1NC/SEG33/RPI40/CN47/RC3 (io), E3 BGBUF2/AN17/OA1PB/C1IND/SEG0/RP21/T5CK/PMA5/CN8/RG6 (io), E4 SEG51/RPI39/CN46/RC2 (io), E6 SEG46/PMD9/CN78/RG1 (io), E8 AN39/SEG43/RPI35/SDA1/PMBE1/CN44/RA15 (io), E9 AN40/SEG13/RP2/RTCC/DMLN/OCTRIG1/PMA13/CN53/RD8 (io), E10 AN24/SEG14/RP4/DPLN/PMACK2/CN54/RD9 (io), E11 AN38/SEG42/RPI36/SCL1/OCTRIG2/PMA22/CN43/RA14 (io), F1 ~{MCLR} (in) "Master Clear (device Reset) Input. This line is brought low to cause a Reset.", F2 VLCAP2/AN19/OA1ND/C2IND/RP19/PMA3/CN10/RG8 (io), F3 AN49/C2INC/SEG1/DAC1/RP27/PMA2/CN11/RG9 (io), F4 VLCAP1/AN18/OA1NE/C1INC/RP26/PMA4/CN9/RG7 (io), F9 OSCI/CLKI/CN23/RC12 (io), F11 OSCO/CLKO/CN22/RC15 (io), G1 SEG34/RPI33/PMCS1/CN66/RE8 (io), G2 AN21/SEG35/RPI34/PMA19/CN67/RE9 (io), G3 TMS/SEG48/CTED0/CN33/RA0 (io), G9 TDO/AN37/SEG28/CN38/RA5 (io), G10 SEG56/SDA2/PMA20/CN36/RA3 (io), G11 TDI/AN36/SEG29/PMA21/CN37/RA4 (io), H1 PGEC3/AN5/OA1OUT/C1INA/SEG2/RP18/CN7/RB5 (io), H2 PGED3/AN4/OA1NA/C1INB/SEG3/RP28/USBOEN/CN6/RB4 (io), H5 CH0- (in) "Sigma-Delta A/D Converter Channel 0 Inverting Analog Input.", H8 VBUS/CN83/RF7 (io), H10 D+/CN72/RG2 (io), H11 SEG55/SCL2/CN35/RA2 (io), J1 AN3/OA2OUT/C2INA/SEG4/VPIO/CN5/RB3 (io), J2 AN2/OA2NC/CTCMP/C2INB/SEG5/RP13/T4CK/VMIO/CTED13/CN4/RB2 (io), J3 PGED2/AN7/COM6/SEG30/RP7/CN25/RB7 (io), J6 TCK/AN26/SEG31/CN34/RA1 (io), J7 AN12/COM5/SEG18/T1CK/CTED2/PMA11/CN30/RB12 (io), J10 AN32/SEG41/RP15/CN74/RF8 (io), J11 D-/CN73/RG3 (io), K1 PGEC1/CVREF-/AVREF-/AN1/OA2PB/SEG6/RP1/CTED12/CN3/RB1 (io), K2 PGED1/CVREF+/AVREF+/DVREF+/BGBUF1/AN0/SEG7/RP0/CN2/RB0 (io), K3 CVREF+/AVREF+/SEG37/PMA6/CN42/RA10 (io), K5 CH1+/SVREF+ (in), K6 SEG54/RPI32/CTED7/PMA18/CN75/RF12 (io), K7 AN14/OA2NE/SEG8/RP14/CTED5/CTPLS/PMA1/CN32/RB14 (io), K9 AN29/SEG39/RP5/CN21/RD15 (io), K10 AN30/SEG12/RP16/USBID/PMA12/CN71/RF3 (io), K11 AN31/SEG40/RP30/CN70/RF2 (io), L1 PGEC2/AN6/OA1PD/RP6/LCDBIAS3/CN24/RB6 (io), L2 CVREF-/AVREF-/SEG36/PMA7/CN41/RA9 (io), L4 CH0+ (in) "Sigma-Delta A/D Converter Channel 1 Non-Inverting Analog Input.", L5 CH1-/CH1SE/SVREF- (in), L6 AN27/SEG53/RP31/CN76/RF13 (io), L7 AN13/OA2PD/SEG19/DAC2/CTED1/PMA10/CN31/RB13 (io), L8 AN15/SEG9/RP29/T2CK/REFO/CTED6/PMA0/CN12/RB15 (io), L9 AN28/SEG38/RPI43/CN20/RD14 (io), L10 AN11/OA2ND/SEG10/RP10/SDA2/T3CK/PMA9/CN17/RF4 (io), L11 CVREF/AN10/OA2PC/SEG11/RP17/SCL2/PMA8/CN18/RF5 (io)
part B pins: A7 VBAT (power) "Backup Battery (B+) Input.", B10 VSS (power) "Ground Reference for Logic and I/O Pins.", C2 VDD (power) "Positive Supply for Peripheral Digital Logic and I/O Pins", F5 VSS (power) "Ground Reference for Logic and I/O Pins.", F8 VDD (power) "Positive Supply for Peripheral Digital Logic and I/O Pins", F10 VSS (power) "Ground Reference for Logic and I/O Pins.", G5 VDD (power) "Positive Supply for Peripheral Digital Logic and I/O Pins", G6 VDD (power) "Positive Supply for Peripheral Digital Logic and I/O Pins", G7 VSS (power) "Ground Reference for Logic and I/O Pins.", H9 VUSB3V3 (power) "USB Transceiver Power Input Voltage (3.3V nominal)", J4 AVDD (power) "Positive Supply for Analog modules.", J5 SVDD (power) "Positive Supply for Sigma-Delta A/D Converter", K4 SVSS (power) "Ground Reference for Sigma-Delta A/D Converter", K8 VDD (power) "Positive Supply for Peripheral Digital Logic and I/O Pins", L3 AVSS (power) "Ground Reference for Analog modules"
part C pins: A8 NC, B1 NC, C6 NC, C9 NC, D4 NC, D5 NC, D6 NC, D10 NC, E5 NC, E7 NC, F6 NC, F7 NC, G4 NC, G8 NC, H3 NC, H4 NC, H6 NC, H7 NC, J8 NC, J9 NC

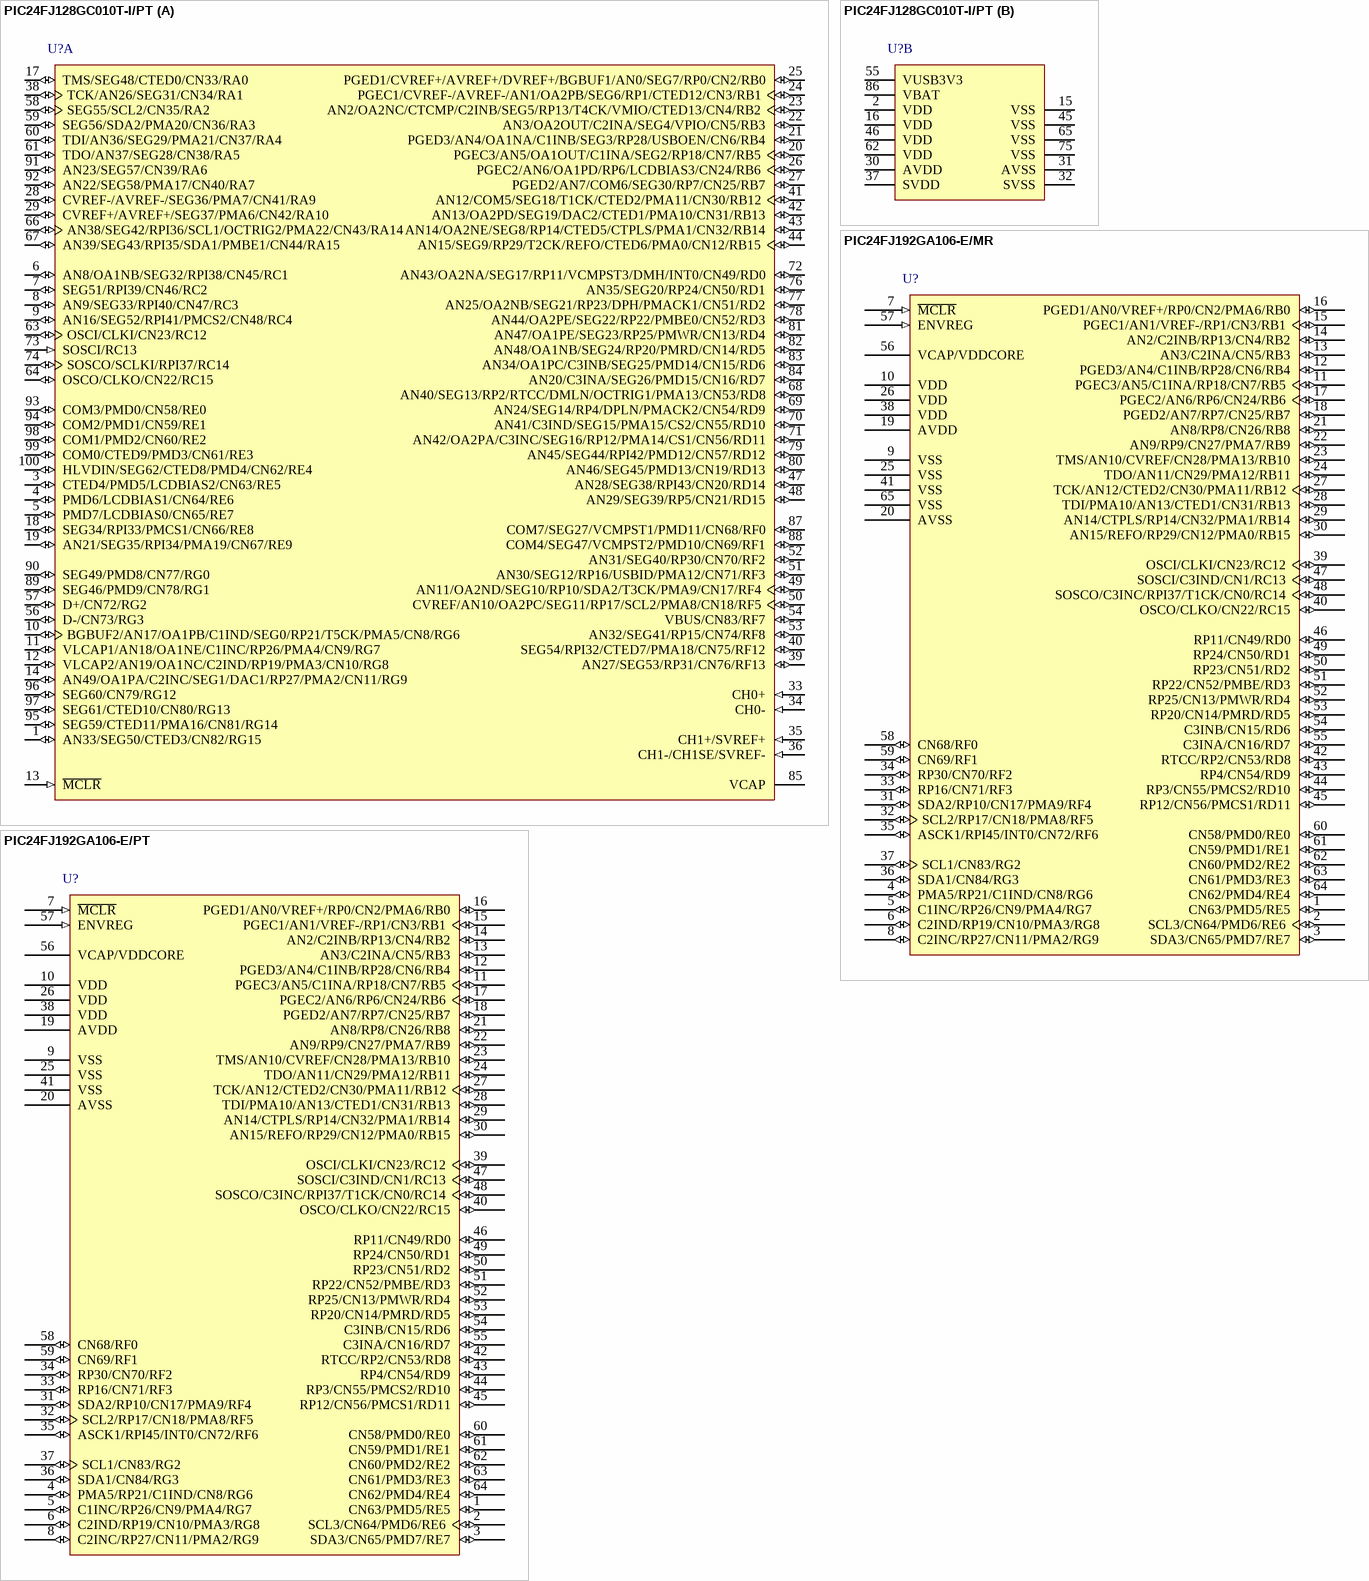
[diagram p89: symbols PIC24FJ128GC010T-I/PT to PIC24FJ192GA106-E/PT]

## PIC24FJ128GC010T-I/PT
designator U?
16-Bit Flash Microcontrollers with 12-Bit Pipeline A/D, Sigma-Delta A/D, USB On-The-Go and XLP Technology, 64 KB Flash, 8 KB RAM, Industrial Temperature, 100-Pin TQFP (PT100), Tape and Reel; Manufacturer: Microchip; PartNumber: PIC24FJ128GC010T-I/PT; VCC Range: 2.0 to 3.6 V; DatasheetVersion: Rev. B; PackageVersion: C04-100B, 12/2012; PackageReference: TQFP-PT100; PackageDescription: 100-Lead Plastic Thin Quad Flatpack, 12 x 12 mm Body, 0.4 mm Pitch; Supplier 1: Digi-Key; Supplier Part Number 1: PIC24FJ128GC010T-I/PT-ND; Supplier 2: Mouser; Supplier Part Number 2: N/A; Packing: Tape and Reel; Mounting Technology: Surface Mount; ComponentLink1Description: Manufacturer URL; ComponentLink1URL: http://www.microchip.com/; ComponentLink2Description: Datasheet; ComponentLink2URL: http://ww1.microchip.com/downloads/en/DeviceDoc/30009312b.pdf; ComponentLink3Description: Package Specification; ComponentLink3URL: http://www.microchip.com/stellent/groups/techpub_sg/documents/packagingspec/en012702.pdf
footprint MCHP-TQFP-PT100_N (QFP, 100-Leads, Body 12x12mm, Pitch 0.4mm, IPC Medium Density)
footprint MCHP-TQFP-PT100_L (QFP, 100-Leads, Body 12x12mm, Pitch 0.4mm, IPC High Density)
footprint MCHP-TQFP-PT100_M (TQFP, 100-Leads, Body 12x12mm, Pitch 0.4mm, IPC Low Density)
part A pins: 1 AN33/SEG50/CTED3/CN82/RG15 (io), 3 CTED4/PMD5/LCDBIAS2/CN63/RE5 (io), 4 PMD6/LCDBIAS1/CN64/RE6 (io), 5 PMD7/LCDBIAS0/CN65/RE7 (io), 6 AN8/OA1NB/SEG32/RPI38/CN45/RC1 (io), 7 SEG51/RPI39/CN46/RC2 (io), 8 AN9/SEG33/RPI40/CN47/RC3 (io), 9 AN16/SEG52/RPI41/PMCS2/CN48/RC4 (io), 10 BGBUF2/AN17/OA1PB/C1IND/SEG0/RP21/T5CK/PMA5/CN8/RG6 (io), 11 VLCAP1/AN18/OA1NE/C1INC/RP26/PMA4/CN9/RG7 (io), 12 VLCAP2/AN19/OA1NC/C2IND/RP19/PMA3/CN10/RG8 (io), 13 ~{MCLR} (in) "Master Clear (device Reset) Input. This line is brought low to cause a Reset.", 14 AN49/OA1PA/C2INC/SEG1/DAC1/RP27/PMA2/CN11/RG9 (io), 17 TMS/SEG48/CTED0/CN33/RA0 (io), 18 SEG34/RPI33/PMCS1/CN66/RE8 (io), 19 AN21/SEG35/RPI34/PMA19/CN67/RE9 (io), 20 PGEC3/AN5/OA1OUT/C1INA/SEG2/RP18/CN7/RB5 (io), 21 PGED3/AN4/OA1NA/C1INB/SEG3/RP28/USBOEN/CN6/RB4 (io), 22 AN3/OA2OUT/C2INA/SEG4/VPIO/CN5/RB3 (io), 23 AN2/OA2NC/CTCMP/C2INB/SEG5/RP13/T4CK/VMIO/CTED13/CN4/RB2 (io), 24 PGEC1/CVREF-/AVREF-/AN1/OA2PB/SEG6/RP1/CTED12/CN3/RB1 (io), 25 PGED1/CVREF+/AVREF+/DVREF+/BGBUF1/AN0/SEG7/RP0/CN2/RB0 (io), 26 PGEC2/AN6/OA1PD/RP6/LCDBIAS3/CN24/RB6 (io), 27 PGED2/AN7/COM6/SEG30/RP7/CN25/RB7 (io), 28 CVREF-/AVREF-/SEG36/PMA7/CN41/RA9 (io), 29 CVREF+/AVREF+/SEG37/PMA6/CN42/RA10 (io), 33 CH0+ (in) "Sigma-Delta A/D Converter Channel 0 Non-Inverting Analog Input.", 34 CH0- (in) "Sigma-Delta A/D Converter Channel 0 Inverting Analog Input.", 35 CH1+/SVREF+ (in), 36 CH1-/CH1SE/SVREF- (in), 38 TCK/AN26/SEG31/CN34/RA1 (io), 39 AN27/SEG53/RP31/CN76/RF13 (io), 40 SEG54/RPI32/CTED7/PMA18/CN75/RF12 (io), 41 AN12/COM5/SEG18/T1CK/CTED2/PMA11/CN30/RB12 (io), 42 AN13/OA2PD/SEG19/DAC2/CTED1/PMA10/CN31/RB13 (io), 43 AN14/OA2NE/SEG8/RP14/CTED5/CTPLS/PMA1/CN32/RB14 (io), 44 AN15/SEG9/RP29/T2CK/REFO/CTED6/PMA0/CN12/RB15 (io), 47 AN28/SEG38/RPI43/CN20/RD14 (io), 48 AN29/SEG39/RP5/CN21/RD15 (io), 49 AN11/OA2ND/SEG10/RP10/SDA2/T3CK/PMA9/CN17/RF4 (io), 50 CVREF/AN10/OA2PC/SEG11/RP17/SCL2/PMA8/CN18/RF5 (io), 51 AN30/SEG12/RP16/USBID/PMA12/CN71/RF3 (io), 52 AN31/SEG40/RP30/CN70/RF2 (io), 53 AN32/SEG41/RP15/CN74/RF8 (io), 54 VBUS/CN83/RF7 (io), 56 D-/CN73/RG3 (io), 57 D+/CN72/RG2 (io), 58 SEG55/SCL2/CN35/RA2 (io), 59 SEG56/SDA2/PMA20/CN36/RA3 (io), 60 TDI/AN36/SEG29/PMA21/CN37/RA4 (io), 61 TDO/AN37/SEG28/CN38/RA5 (io), 63 OSCI/CLKI/CN23/RC12 (io), 64 OSCO/CLKO/CN22/RC15 (io), 66 AN38/SEG42/RPI36/SCL1/OCTRIG2/PMA22/CN43/RA14 (io), 67 AN39/SEG43/RPI35/SDA1/PMBE1/CN44/RA15 (io), 68 AN40/SEG13/RP2/RTCC/DMLN/OCTRIG1/PMA13/CN53/RD8 (io), 69 AN24/SEG14/RP4/DPLN/PMACK2/CN54/RD9 (io), 70 AN41/C3IND/SEG15/PMA15/CS2/CN55/RD10 (io), 71 AN42/OA2PA/C3INC/SEG16/RP12/PMA14/CS1/CN56/RD11 (io), 72 AN43/OA2NA/SEG17/RP11/VCMPST3/DMH/INT0/CN49/RD0 (io), 73 SOSCI/RC13 (in), 74 SOSCO/SCLKI/RPI37/RC14 (io), 76 AN35/SEG20/RP24/CN50/RD1 (io), 77 AN25/OA2NB/SEG21/RP23/DPH/PMACK1/CN51/RD2 (io), 78 AN44/OA2PE/SEG22/RP22/PMBE0/CN52/RD3 (io), 79 AN45/SEG44/RPI42/PMD12/CN57/RD12 (io), 80 AN46/SEG45/PMD13/CN19/RD13 (io), 81 AN47/OA1PE/SEG23/RP25/PMWR/CN13/RD4 (io), 82 AN48/OA1NB/SEG24/RP20/PMRD/CN14/RD5 (io), 83 AN34/OA1PC/C3INB/SEG25/PMD14/CN15/RD6 (io), 84 AN20/C3INA/SEG26/PMD15/CN16/RD7 (io), 85 VCAP "External Filter Capacitor Connection.", 87 COM7/SEG27/VCMPST1/PMD11/CN68/RF0 (io), 88 COM4/SEG47/VCMPST2/PMD10/CN69/RF1 (io), 89 SEG46/PMD9/CN78/RG1 (io), 90 SEG49/PMD8/CN77/RG0 (io), 91 AN23/SEG57/CN39/RA6 (io), 92 AN22/SEG58/PMA17/CN40/RA7 (io), 93 COM3/PMD0/CN58/RE0 (io), 94 COM2/PMD1/CN59/RE1 (io), 95 SEG59/CTED11/PMA16/CN81/RG14 (io), 96 SEG60/CN79/RG12 (io), 97 SEG61/CTED10/CN80/RG13 (io), 98 COM1/PMD2/CN60/RE2 (io), 99 COM0/CTED9/PMD3/CN61/RE3 (io), 100 HLVDIN/SEG62/CTED8/PMD4/CN62/RE4 (io)
part B pins: 2 VDD (power) "Positive Supply for Peripheral Digital Logic and I/O Pins.", 15 VSS (power) "Ground Reference for Logic and I/O Pins.", 16 VDD (power) "Positive Supply for Peripheral Digital Logic and I/O Pins.", 30 AVDD (power) "Positive Supply for Analog modules.", 31 AVSS (power) "Ground Reference for Analog modules.", 32 SVSS (power) "Ground Reference for Sigma-Delta A/D Converter.", 37 SVDD (power) "Positive Supply for Sigma-Delta A/D Converter.", 45 VSS (power) "Ground Reference for Logic and I/O Pins.", 46 VDD (power) "Positive Supply for Peripheral Digital Logic and I/O Pins.", 55 VUSB3V3 (power) "USB Transceiver Power Input Voltage (3.3V nominal)", 62 VDD (power) "Positive Supply for Peripheral Digital Logic and I/O Pins.", 65 VSS (power) "Ground Reference for Logic and I/O Pins.", 75 VSS (power) "Ground Reference for Logic and I/O Pins.", 86 VBAT (power) "Backup Battery (B+) Input."

## PIC24FJ192GA106-E/MR
designator U?
General Purpose 16-Bit Flash Microcontroller, 192KB Flash, 16KB SRAM, 64-pin QFN, Extended Temperature; Manufacturer: Microchip; PartNumber: PIC24FJ192GA106-E/MR; DatasheetVersion: revE, Nov-2010; PackageVersion: revBB, Aug-2009; PackageReference: QFN-MR64; PackageDescription: 64-Lead Plastic Quad Flat, No Lead Package (MR) - 9x9x0.9 mm Body [QFN]; Supplier 1: Digi-Key; Supplier Part Number 1: PIC24FJ192GA106-E/MR-ND; Supplier 2: Mouser; Supplier Part Number 2: 579-24FJ192GA106-EMR; Mounting Technology: Surface Mount; ComponentLink1Description: Manufacturer URL; ComponentLink1URL: http://www.microchip.com/; ComponentLink2Description: Datasheet; ComponentLink2URL: http://ww1.microchip.com/downloads/en/DeviceDoc/39905d.pdf; ComponentLink3Description: Package Specification; ComponentLink3URL: http://www.microchip.com/stellent/groups/techpub_sg/documents/packagingspec/en012702.pdf
footprint QFN-MR64_N (QFN, 64-Leads, Body 9x9mm, Pitch 0.5mm, Thermal Pad 7.5x7.5mm, IPC Medium Density)
footprint QFN-MR64_L (QFN, 64-Leads, Body 9x9mm, Pitch 0.5mm, Thermal Pad 7.5x7.5mm, IPC High Density)
footprint QFN-MR64_M (QFN, 64-Leads, Body 9x9mm, Pitch 0.5mm, Thermal Pad 7.5x7.5mm, IPC Low Density)
pins: 1 CN63/PMD5/RE5 (io), 2 SCL3/CN64/PMD6/RE6 (io), 3 SDA3/CN65/PMD7/RE7 (io), 4 PMA5/RP21/C1IND/CN8/RG6 (io), 5 C1INC/RP26/CN9/PMA4/RG7 (io), 6 C2IND/RP19/CN10/PMA3/RG8 (io), 7 ~{MCLR} (in), 8 C2INC/RP27/CN11/PMA2/RG9 (io), 9 VSS (power), 10 VDD (power), 11 PGEC3/AN5/C1INA/RP18/CN7/RB5 (io), 12 PGED3/AN4/C1INB/RP28/CN6/RB4 (io), 13 AN3/C2INA/CN5/RB3 (io), 14 AN2/C2INB/RP13/CN4/RB2 (io), 15 PGEC1/AN1/VREF-/RP1/CN3/RB1 (io), 16 PGED1/AN0/VREF+/RP0/CN2/PMA6/RB0 (io), 17 PGEC2/AN6/RP6/CN24/RB6 (io), 18 PGED2/AN7/RP7/CN25/RB7 (io), 19 AVDD (power), 20 AVSS (power), 21 AN8/RP8/CN26/RB8 (io), 22 AN9/RP9/CN27/PMA7/RB9 (io), 23 TMS/AN10/CVREF/CN28/PMA13/RB10 (io), 24 TDO/AN11/CN29/PMA12/RB11 (io), 25 VSS (power), 26 VDD (power), 27 TCK/AN12/CTED2/CN30/PMA11/RB12 (io), 28 TDI/PMA10/AN13/CTED1/CN31/RB13 (io), 29 AN14/CTPLS/RP14/CN32/PMA1/RB14 (io), 30 AN15/REFO/RP29/CN12/PMA0/RB15 (io), 31 SDA2/RP10/CN17/PMA9/RF4 (io), 32 SCL2/RP17/CN18/PMA8/RF5 (io), 33 RP16/CN71/RF3 (io), 34 RP30/CN70/RF2 (io), 35 ASCK1/RPI45/INT0/CN72/RF6 (io), 36 SDA1/CN84/RG3 (io), 37 SCL1/CN83/RG2 (io), 38 VDD (power), 39 OSCI/CLKI/CN23/RC12 (io), 40 OSCO/CLKO/CN22/RC15 (io), 41 VSS (power), 42 RTCC/RP2/CN53/RD8 (io), 43 RP4/CN54/RD9 (io), 44 RP3/CN55/PMCS2/RD10 (io), 45 RP12/CN56/PMCS1/RD11 (io), 46 RP11/CN49/RD0 (io), 47 SOSCI/C3IND/CN1/RC13 (io), 48 SOSCO/C3INC/RPI37/T1CK/CN0/RC14 (io), 49 RP24/CN50/RD1 (io), 50 RP23/CN51/RD2 (io), 51 RP22/CN52/PMBE/RD3 (io), 52 RP25/CN13/PMWR/RD4 (io), 53 RP20/CN14/PMRD/RD5 (io), 54 C3INB/CN15/RD6 (io), 55 C3INA/CN16/RD7 (io), 56 VCAP/VDDCORE (power), 57 ENVREG (in), 58 CN68/RF0 (io), 59 CN69/RF1 (io), 60 CN58/PMD0/RE0 (io), 61 CN59/PMD1/RE1 (io), 62 CN60/PMD2/RE2 (io), 63 CN61/PMD3/RE3 (io), 64 CN62/PMD4/RE4 (io), 65 VSS (power)

## PIC24FJ192GA106-E/PT
designator U?
General Purpose 16-Bit Flash Microcontroller, 192KB Flash, 16KB SRAM, 64-Pin TQFP, Extended Temperature; Manufacturer: Microchip; PartNumber: PIC24FJ192GA106-E/PT; DatasheetVersion: revE, Nov-2010; PackageVersion: revBB, Aug-2009; PackageReference: TQFP-PT64; PackageDescription: 64-Lead Thin Plastic Quad Flat Pack (PT) - 10x10x1mm Body, 2.00mm [TQFP]; Supplier 1: Digi-Key; Supplier Part Number 1: PIC24FJ192GA106-E/PT-ND; Supplier 2: Newark; Supplier Part Number 2: 45P4808; Supplier 3: Mouser; Supplier Part Number 3: 579-FJ192GA106-E/PT; Mounting Technology: Surface Mount; Code_JEDEC: MS-026; ComponentLink1Description: Manufacturer URL; ComponentLink1URL: http://www.microchip.com/; ComponentLink2Description: Datasheet; ComponentLink2URL: http://ww1.microchip.com/downloads/en/DeviceDoc/39905d.pdf; ComponentLink3Description: Package Specification; ComponentLink3URL: http://www.microchip.com/stellent/groups/techpub_sg/documents/packagingspec/en012702.pdf
footprint TQFP-PT64_N (Thin QFP, 64-Leads, Body 10x10mm, Pitch 0.5mm, IPC Medium Density)
footprint TQFP-PT64_L (Thin QFP, 64-Leads, Body 10x10mm, Pitch 0.5mm, IPC High Density)
footprint TQFP-PT64_M (Thin QFP, 64-Leads, Body 10x10mm, Pitch 0.5mm, IPC Low Density)
pins: 1 CN63/PMD5/RE5 (io), 2 SCL3/CN64/PMD6/RE6 (io), 3 SDA3/CN65/PMD7/RE7 (io), 4 PMA5/RP21/C1IND/CN8/RG6 (io), 5 C1INC/RP26/CN9/PMA4/RG7 (io), 6 C2IND/RP19/CN10/PMA3/RG8 (io), 7 ~{MCLR} (in), 8 C2INC/RP27/CN11/PMA2/RG9 (io), 9 VSS (power), 10 VDD (power), 11 PGEC3/AN5/C1INA/RP18/CN7/RB5 (io), 12 PGED3/AN4/C1INB/RP28/CN6/RB4 (io), 13 AN3/C2INA/CN5/RB3 (io), 14 AN2/C2INB/RP13/CN4/RB2 (io), 15 PGEC1/AN1/VREF-/RP1/CN3/RB1 (io), 16 PGED1/AN0/VREF+/RP0/CN2/PMA6/RB0 (io), 17 PGEC2/AN6/RP6/CN24/RB6 (io), 18 PGED2/AN7/RP7/CN25/RB7 (io), 19 AVDD (power), 20 AVSS (power), 21 AN8/RP8/CN26/RB8 (io), 22 AN9/RP9/CN27/PMA7/RB9 (io), 23 TMS/AN10/CVREF/CN28/PMA13/RB10 (io), 24 TDO/AN11/CN29/PMA12/RB11 (io), 25 VSS (power), 26 VDD (power), 27 TCK/AN12/CTED2/CN30/PMA11/RB12 (io), 28 TDI/PMA10/AN13/CTED1/CN31/RB13 (io), 29 AN14/CTPLS/RP14/CN32/PMA1/RB14 (io), 30 AN15/REFO/RP29/CN12/PMA0/RB15 (io), 31 SDA2/RP10/CN17/PMA9/RF4 (io), 32 SCL2/RP17/CN18/PMA8/RF5 (io), 33 RP16/CN71/RF3 (io), 34 RP30/CN70/RF2 (io), 35 ASCK1/RPI45/INT0/CN72/RF6 (io), 36 SDA1/CN84/RG3 (io), 37 SCL1/CN83/RG2 (io), 38 VDD (power), 39 OSCI/CLKI/CN23/RC12 (io), 40 OSCO/CLKO/CN22/RC15 (io), 41 VSS (power), 42 RTCC/RP2/CN53/RD8 (io), 43 RP4/CN54/RD9 (io), 44 RP3/CN55/PMCS2/RD10 (io), 45 RP12/CN56/PMCS1/RD11 (io), 46 RP11/CN49/RD0 (io), 47 SOSCI/C3IND/CN1/RC13 (io), 48 SOSCO/C3INC/RPI37/T1CK/CN0/RC14 (io), 49 RP24/CN50/RD1 (io), 50 RP23/CN51/RD2 (io), 51 RP22/CN52/PMBE/RD3 (io), 52 RP25/CN13/PMWR/RD4 (io), 53 RP20/CN14/PMRD/RD5 (io), 54 C3INB/CN15/RD6 (io), 55 C3INA/CN16/RD7 (io), 56 VCAP/VDDCORE (power), 57 ENVREG (in), 58 CN68/RF0 (io), 59 CN69/RF1 (io), 60 CN58/PMD0/RE0 (io), 61 CN59/PMD1/RE1 (io), 62 CN60/PMD2/RE2 (io), 63 CN61/PMD3/RE3 (io), 64 CN62/PMD4/RE4 (io)

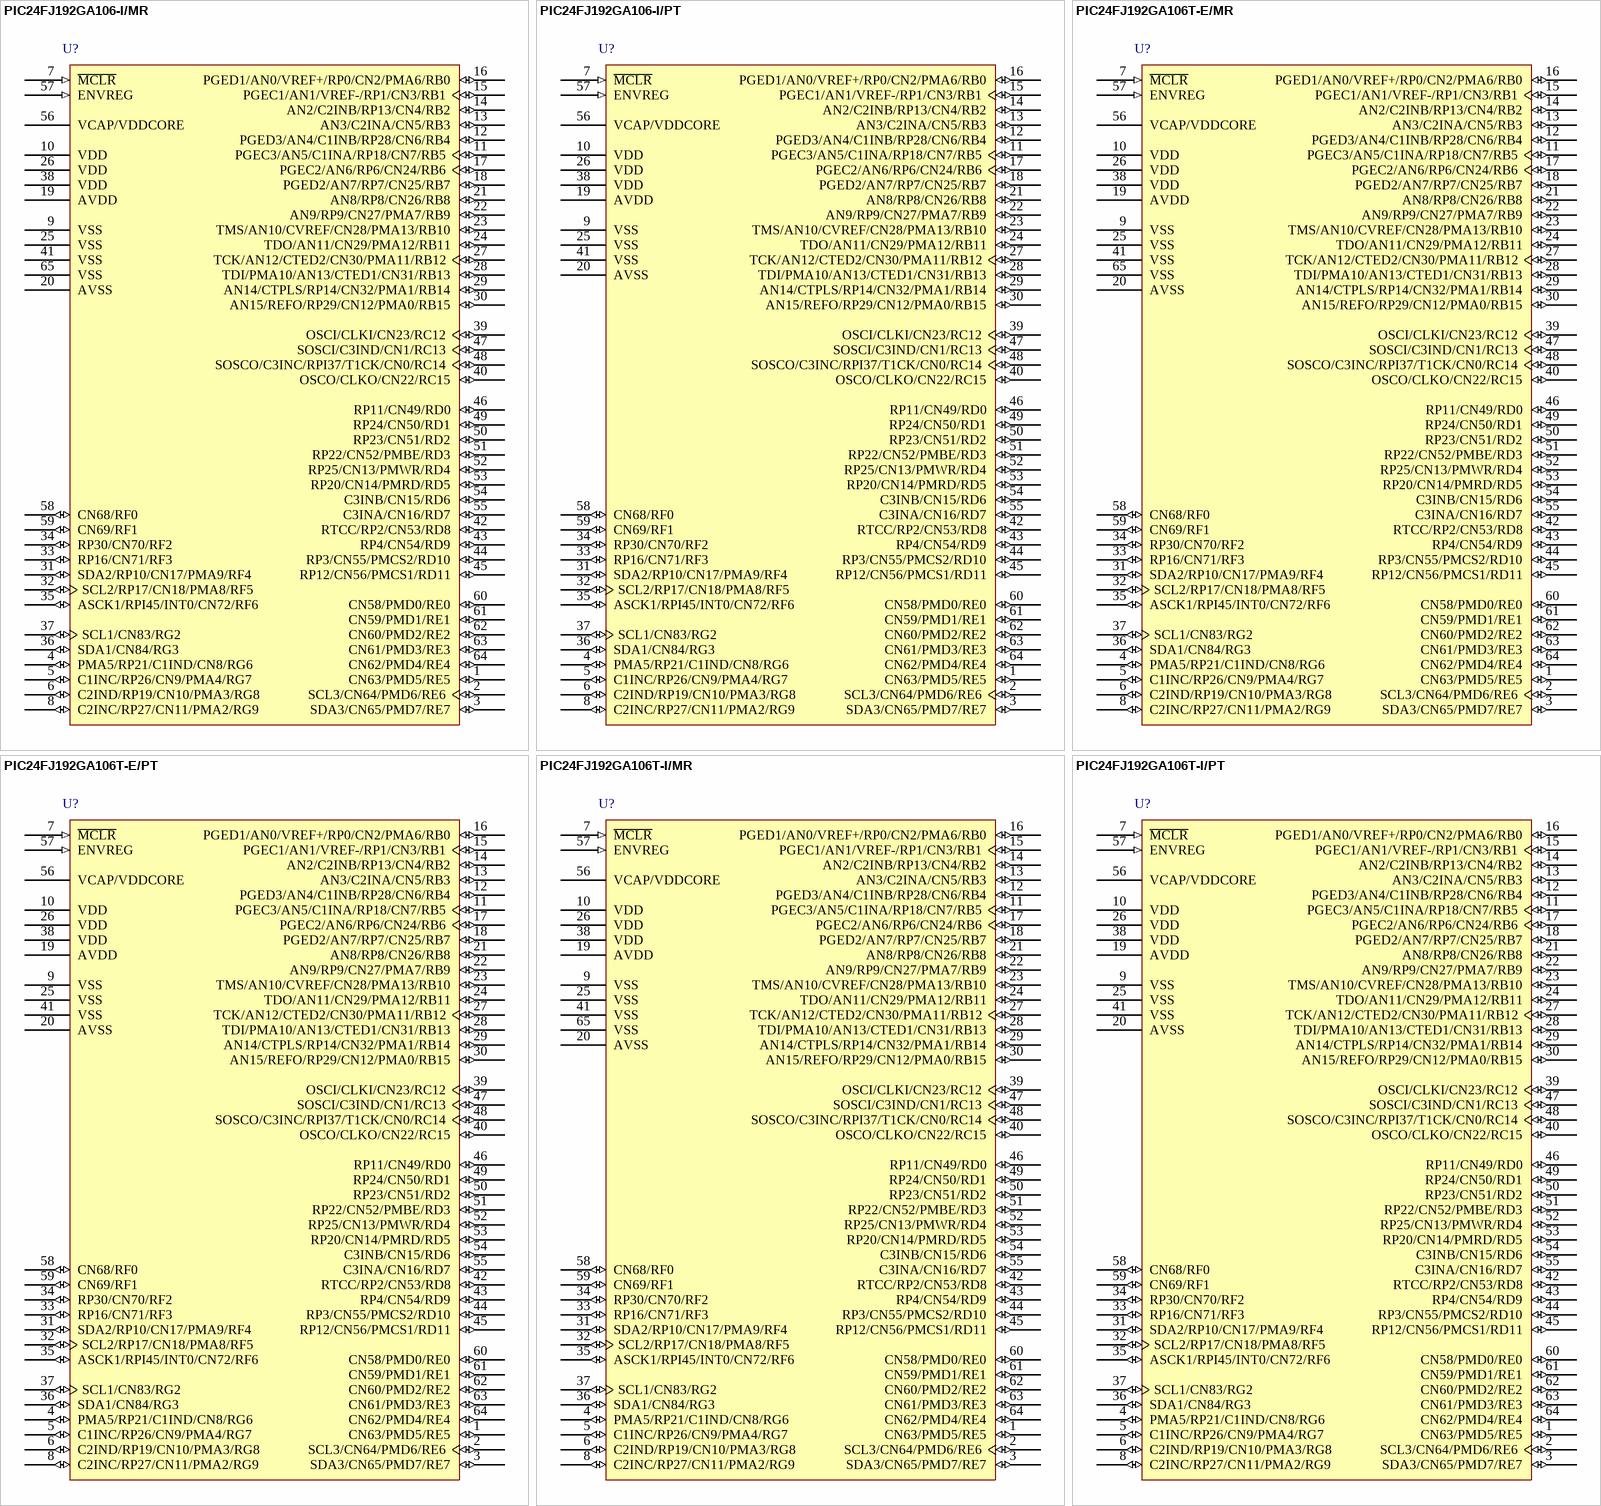
[diagram p90: symbols PIC24FJ192GA106-I/MR to PIC24FJ192GA106T-I/PT]

## PIC24FJ192GA106-I/MR
designator U?
General Purpose 16-Bit Flash Microcontroller, 192KB Flash, 16KB SRAM, 64-pin QFN, Industrial Temperature; Manufacturer: Microchip; PartNumber: PIC24FJ192GA106-I/MR; DatasheetVersion: revE, Nov-2010; PackageVersion: revBB, Aug-2009; PackageReference: QFN-MR64; PackageDescription: 64-Lead Plastic Quad Flat, No Lead Package (MR) - 9x9x0.9 mm Body [QFN]; Supplier 1: Digi-Key; Supplier Part Number 1: PIC24FJ192GA106-I/MR-ND; Supplier 2: Farnell; Supplier Part Number 2: 1708595; Supplier 3: Newark; Supplier Part Number 3: 08R1997; Supplier 4: Mouser; Supplier Part Number 4: 579-24FJ192GA106-IMR; Mounting Technology: Surface Mount; ComponentLink1Description: Manufacturer URL; ComponentLink1URL: http://www.microchip.com/; ComponentLink2Description: Datasheet; ComponentLink2URL: http://ww1.microchip.com/downloads/en/DeviceDoc/39905d.pdf; ComponentLink3Description: Package Specification; ComponentLink3URL: http://www.microchip.com/stellent/groups/techpub_sg/documents/packagingspec/en012702.pdf
footprint QFN-MR64_N (QFN, 64-Leads, Body 9x9mm, Pitch 0.5mm, Thermal Pad 7.5x7.5mm, IPC Medium Density)
footprint QFN-MR64_L (QFN, 64-Leads, Body 9x9mm, Pitch 0.5mm, Thermal Pad 7.5x7.5mm, IPC High Density)
footprint QFN-MR64_M (QFN, 64-Leads, Body 9x9mm, Pitch 0.5mm, Thermal Pad 7.5x7.5mm, IPC Low Density)
pins: 1 CN63/PMD5/RE5 (io), 2 SCL3/CN64/PMD6/RE6 (io), 3 SDA3/CN65/PMD7/RE7 (io), 4 PMA5/RP21/C1IND/CN8/RG6 (io), 5 C1INC/RP26/CN9/PMA4/RG7 (io), 6 C2IND/RP19/CN10/PMA3/RG8 (io), 7 ~{MCLR} (in), 8 C2INC/RP27/CN11/PMA2/RG9 (io), 9 VSS (power), 10 VDD (power), 11 PGEC3/AN5/C1INA/RP18/CN7/RB5 (io), 12 PGED3/AN4/C1INB/RP28/CN6/RB4 (io), 13 AN3/C2INA/CN5/RB3 (io), 14 AN2/C2INB/RP13/CN4/RB2 (io), 15 PGEC1/AN1/VREF-/RP1/CN3/RB1 (io), 16 PGED1/AN0/VREF+/RP0/CN2/PMA6/RB0 (io), 17 PGEC2/AN6/RP6/CN24/RB6 (io), 18 PGED2/AN7/RP7/CN25/RB7 (io), 19 AVDD (power), 20 AVSS (power), 21 AN8/RP8/CN26/RB8 (io), 22 AN9/RP9/CN27/PMA7/RB9 (io), 23 TMS/AN10/CVREF/CN28/PMA13/RB10 (io), 24 TDO/AN11/CN29/PMA12/RB11 (io), 25 VSS (power), 26 VDD (power), 27 TCK/AN12/CTED2/CN30/PMA11/RB12 (io), 28 TDI/PMA10/AN13/CTED1/CN31/RB13 (io), 29 AN14/CTPLS/RP14/CN32/PMA1/RB14 (io), 30 AN15/REFO/RP29/CN12/PMA0/RB15 (io), 31 SDA2/RP10/CN17/PMA9/RF4 (io), 32 SCL2/RP17/CN18/PMA8/RF5 (io), 33 RP16/CN71/RF3 (io), 34 RP30/CN70/RF2 (io), 35 ASCK1/RPI45/INT0/CN72/RF6 (io), 36 SDA1/CN84/RG3 (io), 37 SCL1/CN83/RG2 (io), 38 VDD (power), 39 OSCI/CLKI/CN23/RC12 (io), 40 OSCO/CLKO/CN22/RC15 (io), 41 VSS (power), 42 RTCC/RP2/CN53/RD8 (io), 43 RP4/CN54/RD9 (io), 44 RP3/CN55/PMCS2/RD10 (io), 45 RP12/CN56/PMCS1/RD11 (io), 46 RP11/CN49/RD0 (io), 47 SOSCI/C3IND/CN1/RC13 (io), 48 SOSCO/C3INC/RPI37/T1CK/CN0/RC14 (io), 49 RP24/CN50/RD1 (io), 50 RP23/CN51/RD2 (io), 51 RP22/CN52/PMBE/RD3 (io), 52 RP25/CN13/PMWR/RD4 (io), 53 RP20/CN14/PMRD/RD5 (io), 54 C3INB/CN15/RD6 (io), 55 C3INA/CN16/RD7 (io), 56 VCAP/VDDCORE (power), 57 ENVREG (in), 58 CN68/RF0 (io), 59 CN69/RF1 (io), 60 CN58/PMD0/RE0 (io), 61 CN59/PMD1/RE1 (io), 62 CN60/PMD2/RE2 (io), 63 CN61/PMD3/RE3 (io), 64 CN62/PMD4/RE4 (io), 65 VSS (power)

## PIC24FJ192GA106-I/PT
designator U?
General Purpose 16-Bit Flash Microcontroller, 192KB Flash, 16KB SRAM, 64-Pin TQFP, Industrial Temperature; Manufacturer: Microchip; PartNumber: PIC24FJ192GA106-I/PT; DatasheetVersion: revE, Nov-2010; PackageVersion: revBB, Aug-2009; PackageReference: TQFP-PT64; PackageDescription: 64-Lead Thin Plastic Quad Flat Pack (PT) - 10x10x1mm Body, 2.00mm [TQFP]; Supplier 1: Digi-Key; Supplier Part Number 1: PIC24FJ192GA106-I/PT-ND; Supplier 2: Farnell; Supplier Part Number 2: 1576854; Supplier 3: Newark; Supplier Part Number 3: 54M5105; Supplier 4: Mouser; Supplier Part Number 4: 579-PIC24192GA106IPT; Mounting Technology: Surface Mount; Code_JEDEC: MS-026; ComponentLink1Description: Manufacturer URL; ComponentLink1URL: http://www.microchip.com/; ComponentLink2Description: Datasheet; ComponentLink2URL: http://ww1.microchip.com/downloads/en/DeviceDoc/39905d.pdf; ComponentLink3Description: Package Specification; ComponentLink3URL: http://www.microchip.com/stellent/groups/techpub_sg/documents/packagingspec/en012702.pdf
footprint TQFP-PT64_N (Thin QFP, 64-Leads, Body 10x10mm, Pitch 0.5mm, IPC Medium Density)
footprint TQFP-PT64_L (Thin QFP, 64-Leads, Body 10x10mm, Pitch 0.5mm, IPC High Density)
footprint TQFP-PT64_M (Thin QFP, 64-Leads, Body 10x10mm, Pitch 0.5mm, IPC Low Density)
pins: 1 CN63/PMD5/RE5 (io), 2 SCL3/CN64/PMD6/RE6 (io), 3 SDA3/CN65/PMD7/RE7 (io), 4 PMA5/RP21/C1IND/CN8/RG6 (io), 5 C1INC/RP26/CN9/PMA4/RG7 (io), 6 C2IND/RP19/CN10/PMA3/RG8 (io), 7 ~{MCLR} (in), 8 C2INC/RP27/CN11/PMA2/RG9 (io), 9 VSS (power), 10 VDD (power), 11 PGEC3/AN5/C1INA/RP18/CN7/RB5 (io), 12 PGED3/AN4/C1INB/RP28/CN6/RB4 (io), 13 AN3/C2INA/CN5/RB3 (io), 14 AN2/C2INB/RP13/CN4/RB2 (io), 15 PGEC1/AN1/VREF-/RP1/CN3/RB1 (io), 16 PGED1/AN0/VREF+/RP0/CN2/PMA6/RB0 (io), 17 PGEC2/AN6/RP6/CN24/RB6 (io), 18 PGED2/AN7/RP7/CN25/RB7 (io), 19 AVDD (power), 20 AVSS (power), 21 AN8/RP8/CN26/RB8 (io), 22 AN9/RP9/CN27/PMA7/RB9 (io), 23 TMS/AN10/CVREF/CN28/PMA13/RB10 (io), 24 TDO/AN11/CN29/PMA12/RB11 (io), 25 VSS (power), 26 VDD (power), 27 TCK/AN12/CTED2/CN30/PMA11/RB12 (io), 28 TDI/PMA10/AN13/CTED1/CN31/RB13 (io), 29 AN14/CTPLS/RP14/CN32/PMA1/RB14 (io), 30 AN15/REFO/RP29/CN12/PMA0/RB15 (io), 31 SDA2/RP10/CN17/PMA9/RF4 (io), 32 SCL2/RP17/CN18/PMA8/RF5 (io), 33 RP16/CN71/RF3 (io), 34 RP30/CN70/RF2 (io), 35 ASCK1/RPI45/INT0/CN72/RF6 (io), 36 SDA1/CN84/RG3 (io), 37 SCL1/CN83/RG2 (io), 38 VDD (power), 39 OSCI/CLKI/CN23/RC12 (io), 40 OSCO/CLKO/CN22/RC15 (io), 41 VSS (power), 42 RTCC/RP2/CN53/RD8 (io), 43 RP4/CN54/RD9 (io), 44 RP3/CN55/PMCS2/RD10 (io), 45 RP12/CN56/PMCS1/RD11 (io), 46 RP11/CN49/RD0 (io), 47 SOSCI/C3IND/CN1/RC13 (io), 48 SOSCO/C3INC/RPI37/T1CK/CN0/RC14 (io), 49 RP24/CN50/RD1 (io), 50 RP23/CN51/RD2 (io), 51 RP22/CN52/PMBE/RD3 (io), 52 RP25/CN13/PMWR/RD4 (io), 53 RP20/CN14/PMRD/RD5 (io), 54 C3INB/CN15/RD6 (io), 55 C3INA/CN16/RD7 (io), 56 VCAP/VDDCORE (power), 57 ENVREG (in), 58 CN68/RF0 (io), 59 CN69/RF1 (io), 60 CN58/PMD0/RE0 (io), 61 CN59/PMD1/RE1 (io), 62 CN60/PMD2/RE2 (io), 63 CN61/PMD3/RE3 (io), 64 CN62/PMD4/RE4 (io)

## PIC24FJ192GA106T-E/MR
designator U?
General Purpose 16-Bit Flash Microcontroller, 192KB Flash, 16KB SRAM, 64-pin QFN, Extended Temperature, Tape and Reel; Manufacturer: Microchip; PartNumber: PIC24FJ192GA106T-E/MR; DatasheetVersion: revE, Nov-2010; PackageVersion: revBB, Aug-2009; PackageReference: QFN-MR64; PackageDescription: 64-Lead Plastic Quad Flat, No Lead Package (MR) - 9x9x0.9 mm Body [QFN]; Mounting Technology: Surface Mount; ComponentLink1Description: Manufacturer URL; ComponentLink1URL: http://www.microchip.com/; ComponentLink2Description: Datasheet; ComponentLink2URL: http://ww1.microchip.com/downloads/en/DeviceDoc/39905d.pdf; ComponentLink3Description: Package Specification; ComponentLink3URL: http://www.microchip.com/stellent/groups/techpub_sg/documents/packagingspec/en012702.pdf
footprint QFN-MR64_N (QFN, 64-Leads, Body 9x9mm, Pitch 0.5mm, Thermal Pad 7.5x7.5mm, IPC Medium Density)
footprint QFN-MR64_L (QFN, 64-Leads, Body 9x9mm, Pitch 0.5mm, Thermal Pad 7.5x7.5mm, IPC High Density)
footprint QFN-MR64_M (QFN, 64-Leads, Body 9x9mm, Pitch 0.5mm, Thermal Pad 7.5x7.5mm, IPC Low Density)
pins: 1 CN63/PMD5/RE5 (io), 2 SCL3/CN64/PMD6/RE6 (io), 3 SDA3/CN65/PMD7/RE7 (io), 4 PMA5/RP21/C1IND/CN8/RG6 (io), 5 C1INC/RP26/CN9/PMA4/RG7 (io), 6 C2IND/RP19/CN10/PMA3/RG8 (io), 7 ~{MCLR} (in), 8 C2INC/RP27/CN11/PMA2/RG9 (io), 9 VSS (power), 10 VDD (power), 11 PGEC3/AN5/C1INA/RP18/CN7/RB5 (io), 12 PGED3/AN4/C1INB/RP28/CN6/RB4 (io), 13 AN3/C2INA/CN5/RB3 (io), 14 AN2/C2INB/RP13/CN4/RB2 (io), 15 PGEC1/AN1/VREF-/RP1/CN3/RB1 (io), 16 PGED1/AN0/VREF+/RP0/CN2/PMA6/RB0 (io), 17 PGEC2/AN6/RP6/CN24/RB6 (io), 18 PGED2/AN7/RP7/CN25/RB7 (io), 19 AVDD (power), 20 AVSS (power), 21 AN8/RP8/CN26/RB8 (io), 22 AN9/RP9/CN27/PMA7/RB9 (io), 23 TMS/AN10/CVREF/CN28/PMA13/RB10 (io), 24 TDO/AN11/CN29/PMA12/RB11 (io), 25 VSS (power), 26 VDD (power), 27 TCK/AN12/CTED2/CN30/PMA11/RB12 (io), 28 TDI/PMA10/AN13/CTED1/CN31/RB13 (io), 29 AN14/CTPLS/RP14/CN32/PMA1/RB14 (io), 30 AN15/REFO/RP29/CN12/PMA0/RB15 (io), 31 SDA2/RP10/CN17/PMA9/RF4 (io), 32 SCL2/RP17/CN18/PMA8/RF5 (io), 33 RP16/CN71/RF3 (io), 34 RP30/CN70/RF2 (io), 35 ASCK1/RPI45/INT0/CN72/RF6 (io), 36 SDA1/CN84/RG3 (io), 37 SCL1/CN83/RG2 (io), 38 VDD (power), 39 OSCI/CLKI/CN23/RC12 (io), 40 OSCO/CLKO/CN22/RC15 (io), 41 VSS (power), 42 RTCC/RP2/CN53/RD8 (io), 43 RP4/CN54/RD9 (io), 44 RP3/CN55/PMCS2/RD10 (io), 45 RP12/CN56/PMCS1/RD11 (io), 46 RP11/CN49/RD0 (io), 47 SOSCI/C3IND/CN1/RC13 (io), 48 SOSCO/C3INC/RPI37/T1CK/CN0/RC14 (io), 49 RP24/CN50/RD1 (io), 50 RP23/CN51/RD2 (io), 51 RP22/CN52/PMBE/RD3 (io), 52 RP25/CN13/PMWR/RD4 (io), 53 RP20/CN14/PMRD/RD5 (io), 54 C3INB/CN15/RD6 (io), 55 C3INA/CN16/RD7 (io), 56 VCAP/VDDCORE (power), 57 ENVREG (in), 58 CN68/RF0 (io), 59 CN69/RF1 (io), 60 CN58/PMD0/RE0 (io), 61 CN59/PMD1/RE1 (io), 62 CN60/PMD2/RE2 (io), 63 CN61/PMD3/RE3 (io), 64 CN62/PMD4/RE4 (io), 65 VSS (power)